# Altium integrated library Xilinx CoolRunner II.IntLib: 88 symbols (part 4 of 5)
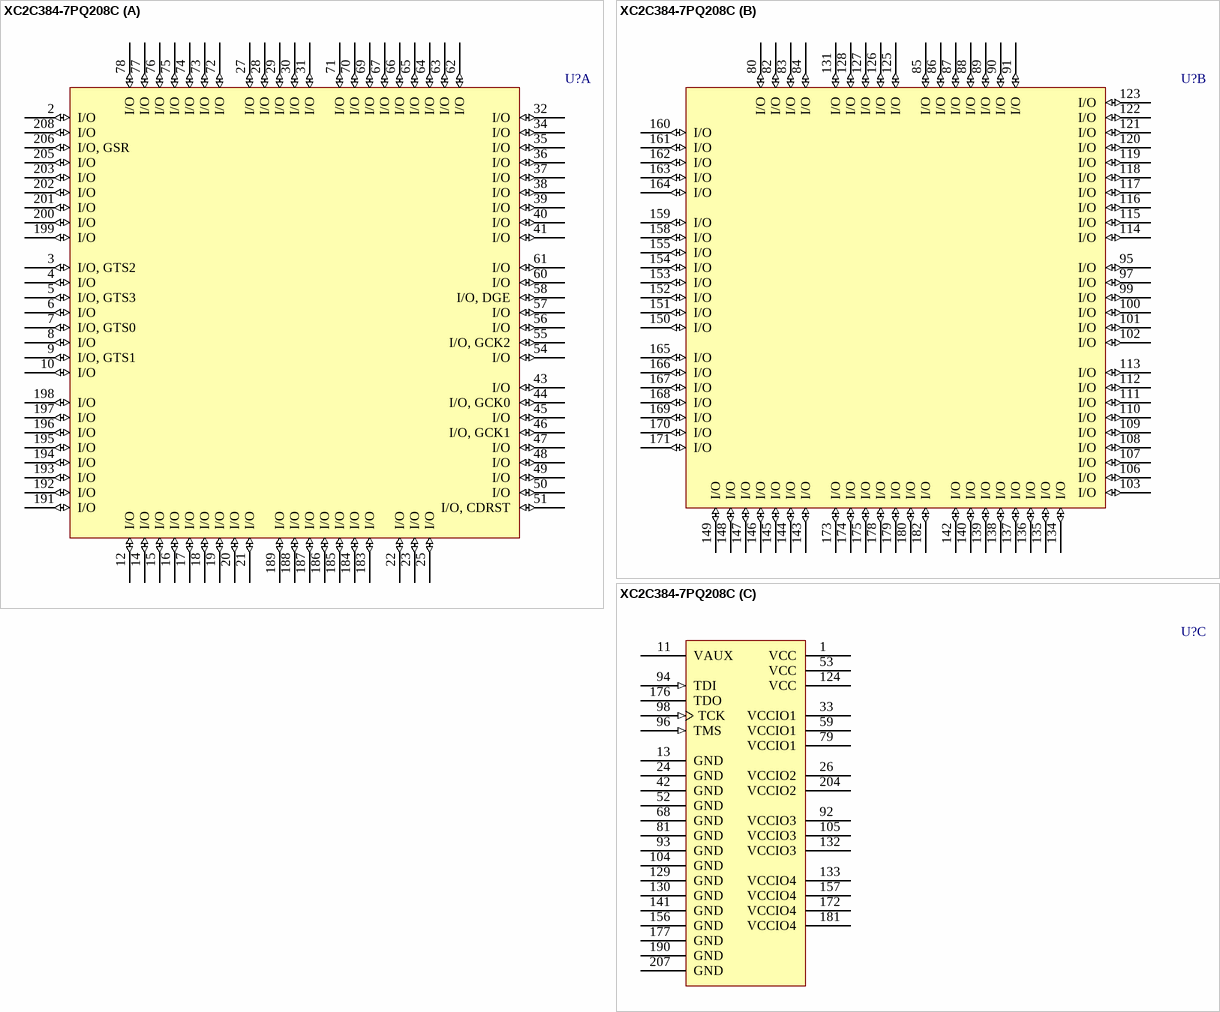
[diagram p43: symbol XC2C384-7PQ208C]

## XC2C384-7PQ208C
designator U?
CoolRunner-II, 1.8V, 384 Macrocell CPLD, 208-Pin PQFP, Commercial Grade; PackageDocument: ver1.1, Oct-2002; Published: 23-Sep-2002; DatasheetDocument: ver2.2, Jan-2004; PackageReference: PQ208; Publisher: Altium Limited; Code_JEDEC: MS-029-FA-1
footprint PQ208 (208-Pin Plastic Quad Flat Pack (PQ208))
3D model XC2C384-PQ208 (208-Pin Plastic Quad Flat Pack (PQ208))
signal-integrity model XC2C384_PQ208 (CoolRunner-II)
part A pins: 2 I/O (io), 3 I/O, GTS2 (io), 4 I/O (io), 5 I/O, GTS3 (io), 6 I/O (io), 7 I/O, GTS0 (io), 8 I/O (io), 9 I/O, GTS1 (io), 10 I/O (io), 12 I/O (io), 14 I/O (io), 15 I/O (io), 16 I/O (io), 17 I/O (io), 18 I/O (io), 19 I/O (io), 20 I/O (io), 21 I/O (io), 22 I/O (io), 23 I/O (io), 25 I/O (io), 27 I/O (io), 28 I/O (io), 29 I/O (io), 30 I/O (io), 31 I/O (io), 32 I/O (io), 34 I/O (io), 35 I/O (io), 36 I/O (io), 37 I/O (io), 38 I/O (io), 39 I/O (io), 40 I/O (io), 41 I/O (io), 43 I/O (io), 44 I/O, GCK0 (io), 45 I/O (io), 46 I/O, GCK1 (io), 47 I/O (io), 48 I/O (io), 49 I/O (io), 50 I/O (io), 51 I/O, CDRST (io), 54 I/O (io), 55 I/O, GCK2 (io), 56 I/O (io), 57 I/O (io), 58 I/O, DGE (io), 60 I/O (io), 61 I/O (io), 62 I/O (io), 63 I/O (io), 64 I/O (io), 65 I/O (io), 66 I/O (io), 67 I/O (io), 69 I/O (io), 70 I/O (io), 71 I/O (io), 72 I/O (io), 73 I/O (io), 74 I/O (io), 75 I/O (io), 76 I/O (io), 77 I/O (io), 78 I/O (io), 183 I/O (io), 184 I/O (io), 185 I/O (io), 186 I/O (io), 187 I/O (io), 188 I/O (io), 189 I/O (io), 191 I/O (io), 192 I/O (io), 193 I/O (io), 194 I/O (io), 195 I/O (io), 196 I/O (io), 197 I/O (io), 198 I/O (io), 199 I/O (io), 200 I/O (io), 201 I/O (io), 202 I/O (io), 203 I/O (io), 205 I/O (io), 206 I/O, GSR (io), 208 I/O (io)
part B pins: 80 I/O (io), 82 I/O (io), 83 I/O (io), 84 I/O (io), 85 I/O (io), 86 I/O (io), 87 I/O (io), 88 I/O (io), 89 I/O (io), 90 I/O (io), 91 I/O (io), 95 I/O (io), 97 I/O (io), 99 I/O (io), 100 I/O (io), 101 I/O (io), 102 I/O (io), 103 I/O (io), 106 I/O (io), 107 I/O (io), 108 I/O (io), 109 I/O (io), 110 I/O (io), 111 I/O (io), 112 I/O (io), 113 I/O (io), 114 I/O (io), 115 I/O (io), 116 I/O (io), 117 I/O (io), 118 I/O (io), 119 I/O (io), 120 I/O (io), 121 I/O (io), 122 I/O (io), 123 I/O (io), 125 I/O (io), 126 I/O (io), 127 I/O (io), 128 I/O (io), 131 I/O (io), 134 I/O (io), 135 I/O (io), 136 I/O (io), 137 I/O (io), 138 I/O (io), 139 I/O (io), 140 I/O (io), 142 I/O (io), 143 I/O (io), 144 I/O (io), 145 I/O (io), 146 I/O (io), 147 I/O (io), 148 I/O (io), 149 I/O (io), 150 I/O (io), 151 I/O (io), 152 I/O (io), 153 I/O (io), 154 I/O (io), 155 I/O (io), 158 I/O (io), 159 I/O (io), 160 I/O (io), 161 I/O (io), 162 I/O (io), 163 I/O (io), 164 I/O (io), 165 I/O (io), 166 I/O (io), 167 I/O (io), 168 I/O (io), 169 I/O (io), 170 I/O (io), 171 I/O (io), 173 I/O (io), 174 I/O (io), 175 I/O (io), 178 I/O (io), 179 I/O (io), 180 I/O (io), 182 I/O (io)
part C pins: 1 VCC (power), 11 VAUX (power), 13 GND (power), 24 GND (power), 26 VCCIO2 (power), 33 VCCIO1 (power), 42 GND (power), 52 GND (power), 53 VCC (power), 59 VCCIO1 (power), 68 GND (power), 79 VCCIO1 (power), 81 GND (power), 92 VCCIO3 (power), 93 GND (power), 94 TDI (in), 96 TMS (in), 98 TCK (in), 104 GND (power), 105 VCCIO3 (power), 124 VCC (power), 129 GND (power), 130 GND (power), 132 VCCIO3 (power), 133 VCCIO4 (power), 141 GND (power), 156 GND (power), 157 VCCIO4 (power), 172 VCCIO4 (power), 176 TDO (hiz), 177 GND (power), 181 VCCIO4 (power), 190 GND (power), 204 VCCIO2 (power), 207 GND (power)

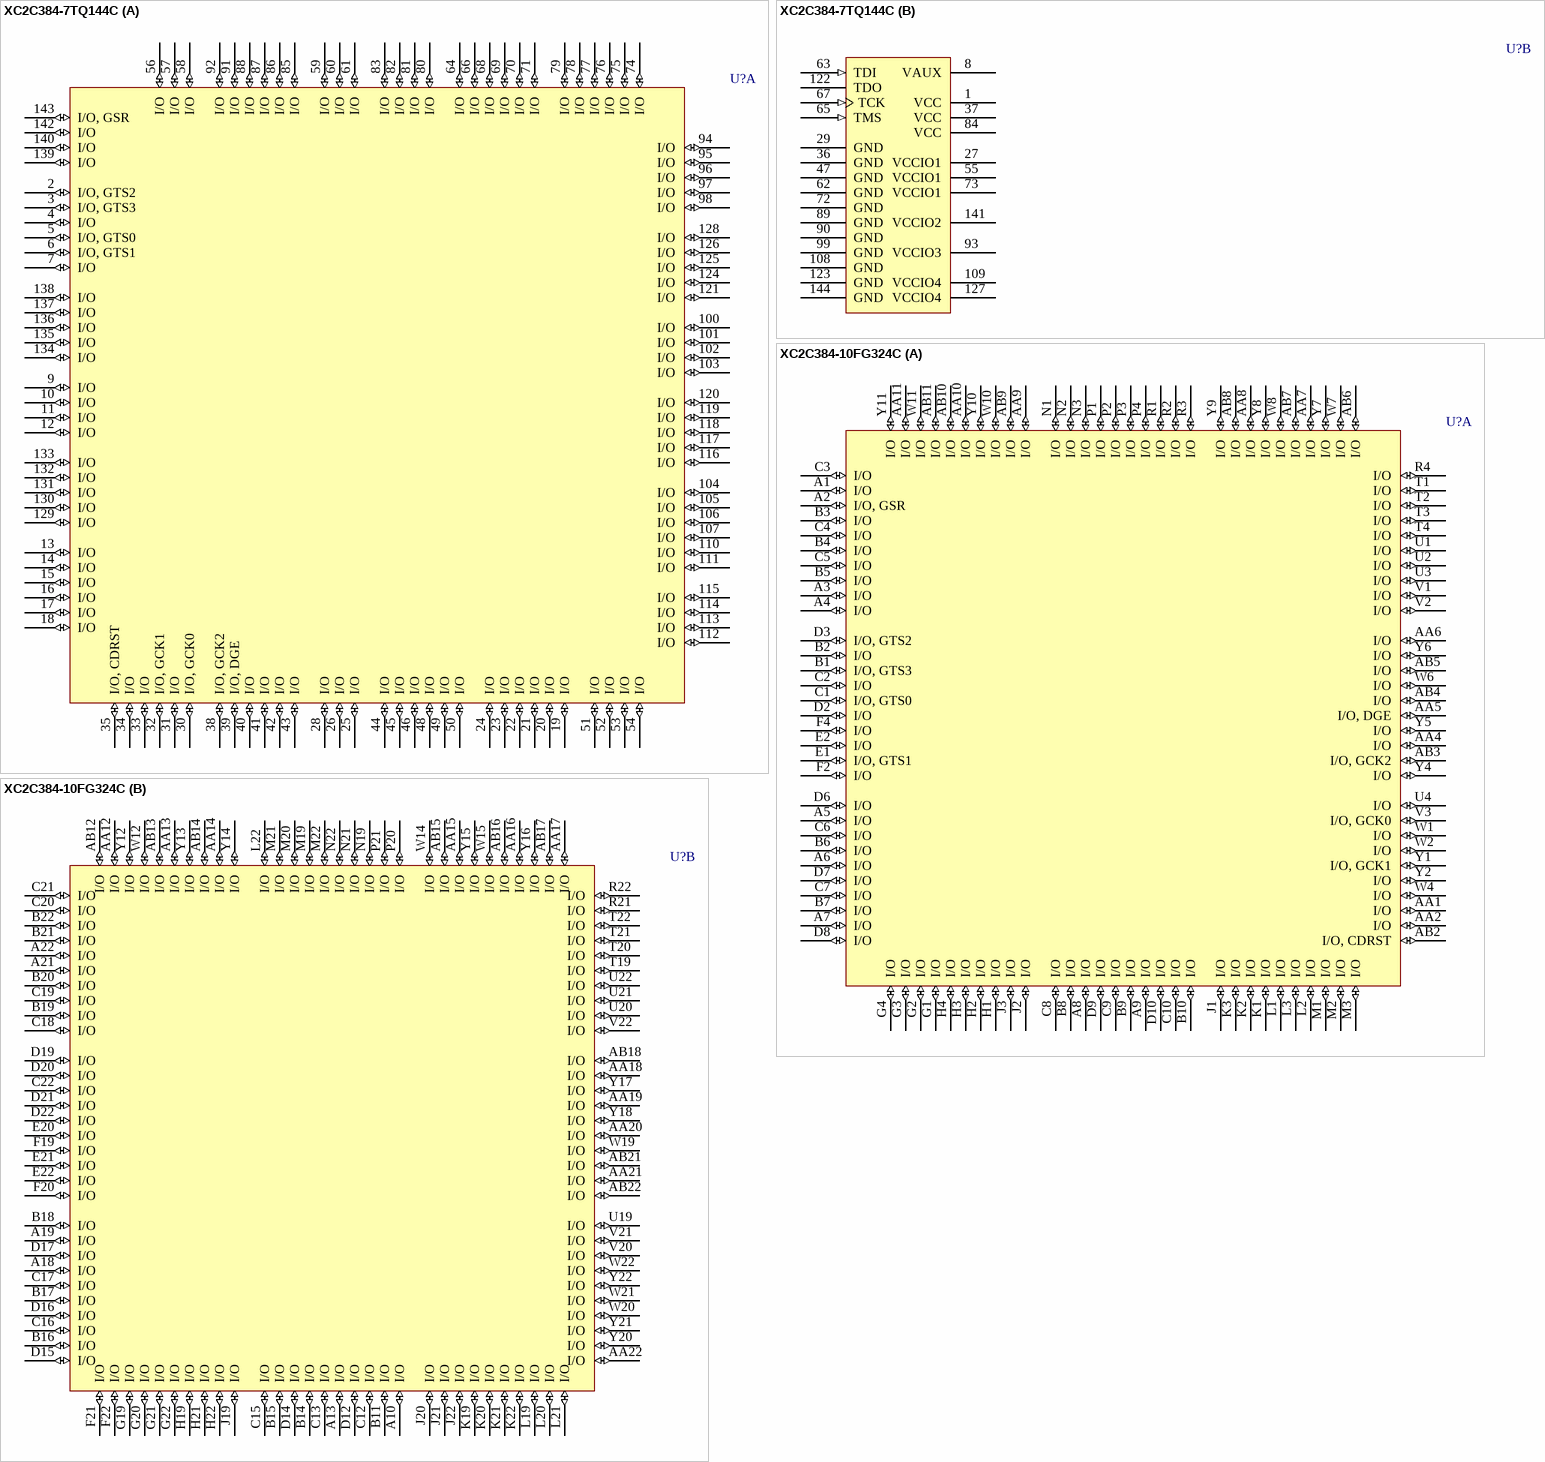
[diagram p26: symbols XC2C384-7TQ144C to XC2C384-10FG324C]

## XC2C384-7TQ144C
designator U?
CoolRunner-II, 1.8V, 384 Macrocell CPLD, 144-Pin TQFP, Commercial Grade; PackageDocument: ver1.1, Oct-2002; Published: 23-Sep-2002; DatasheetDocument: ver2.2, Jan-2004; PackageReference: TQ144; Publisher: Altium Limited; Code_JEDEC: MS-026-BFB; Code_IPC: SQFP20X20-144
footprint TQ144 (144-Pin Thin Quad Flat Pack (TQ144))
3D model XC2C384-TQ144 (144-Pin Thin Quad Flat Pack (TQ144))
signal-integrity model XC2C384_TQ144 (CoolRunner-II)
part A pins: 2 I/O, GTS2 (io), 3 I/O, GTS3 (io), 4 I/O (io), 5 I/O, GTS0 (io), 6 I/O, GTS1 (io), 7 I/O (io), 9 I/O (io), 10 I/O (io), 11 I/O (io), 12 I/O (io), 13 I/O (io), 14 I/O (io), 15 I/O (io), 16 I/O (io), 17 I/O (io), 18 I/O (io), 19 I/O (io), 20 I/O (io), 21 I/O (io), 22 I/O (io), 23 I/O (io), 24 I/O (io), 25 I/O (io), 26 I/O (io), 28 I/O (io), 30 I/O, GCK0 (io), 31 I/O (io), 32 I/O, GCK1 (io), 33 I/O (io), 34 I/O (io), 35 I/O, CDRST (io), 38 I/O, GCK2 (io), 39 I/O, DGE (io), 40 I/O (io), 41 I/O (io), 42 I/O (io), 43 I/O (io), 44 I/O (io), 45 I/O (io), 46 I/O (io), 48 I/O (io), 49 I/O (io), 50 I/O (io), 51 I/O (io), 52 I/O (io), 53 I/O (io), 54 I/O (io), 56 I/O (io), 57 I/O (io), 58 I/O (io), 59 I/O (io), 60 I/O (io), 61 I/O (io), 64 I/O (io), 66 I/O (io), 68 I/O (io), 69 I/O (io), 70 I/O (io), 71 I/O (io), 74 I/O (io), 75 I/O (io), 76 I/O (io), 77 I/O (io), 78 I/O (io), 79 I/O (io), 80 I/O (io), 81 I/O (io), 82 I/O (io), 83 I/O (io), 85 I/O (io), 86 I/O (io), 87 I/O (io), 88 I/O (io), 91 I/O (io), 92 I/O (io), 94 I/O (io), 95 I/O (io), 96 I/O (io), 97 I/O (io), 98 I/O (io), 100 I/O (io), 101 I/O (io), 102 I/O (io), 103 I/O (io), 104 I/O (io), 105 I/O (io), 106 I/O (io), 107 I/O (io), 110 I/O (io), 111 I/O (io), 112 I/O (io), 113 I/O (io), 114 I/O (io), 115 I/O (io), 116 I/O (io), 117 I/O (io), 118 I/O (io), 119 I/O (io), 120 I/O (io), 121 I/O (io), 124 I/O (io), 125 I/O (io), 126 I/O (io), 128 I/O (io), 129 I/O (io), 130 I/O (io), 131 I/O (io), 132 I/O (io), 133 I/O (io), 134 I/O (io), 135 I/O (io), 136 I/O (io), 137 I/O (io), 138 I/O (io), 139 I/O (io), 140 I/O (io), 142 I/O (io), 143 I/O, GSR (io)
part B pins: 1 VCC (power), 8 VAUX (power), 27 VCCIO1 (power), 29 GND (power), 36 GND (power), 37 VCC (power), 47 GND (power), 55 VCCIO1 (power), 62 GND (power), 63 TDI (in), 65 TMS (in), 67 TCK (in), 72 GND (power), 73 VCCIO1 (power), 84 VCC (power), 89 GND (power), 90 GND (power), 93 VCCIO3 (power), 99 GND (power), 108 GND (power), 109 VCCIO4 (power), 122 TDO (hiz), 123 GND (power), 127 VCCIO4 (power), 141 VCCIO2 (power), 144 GND (power)

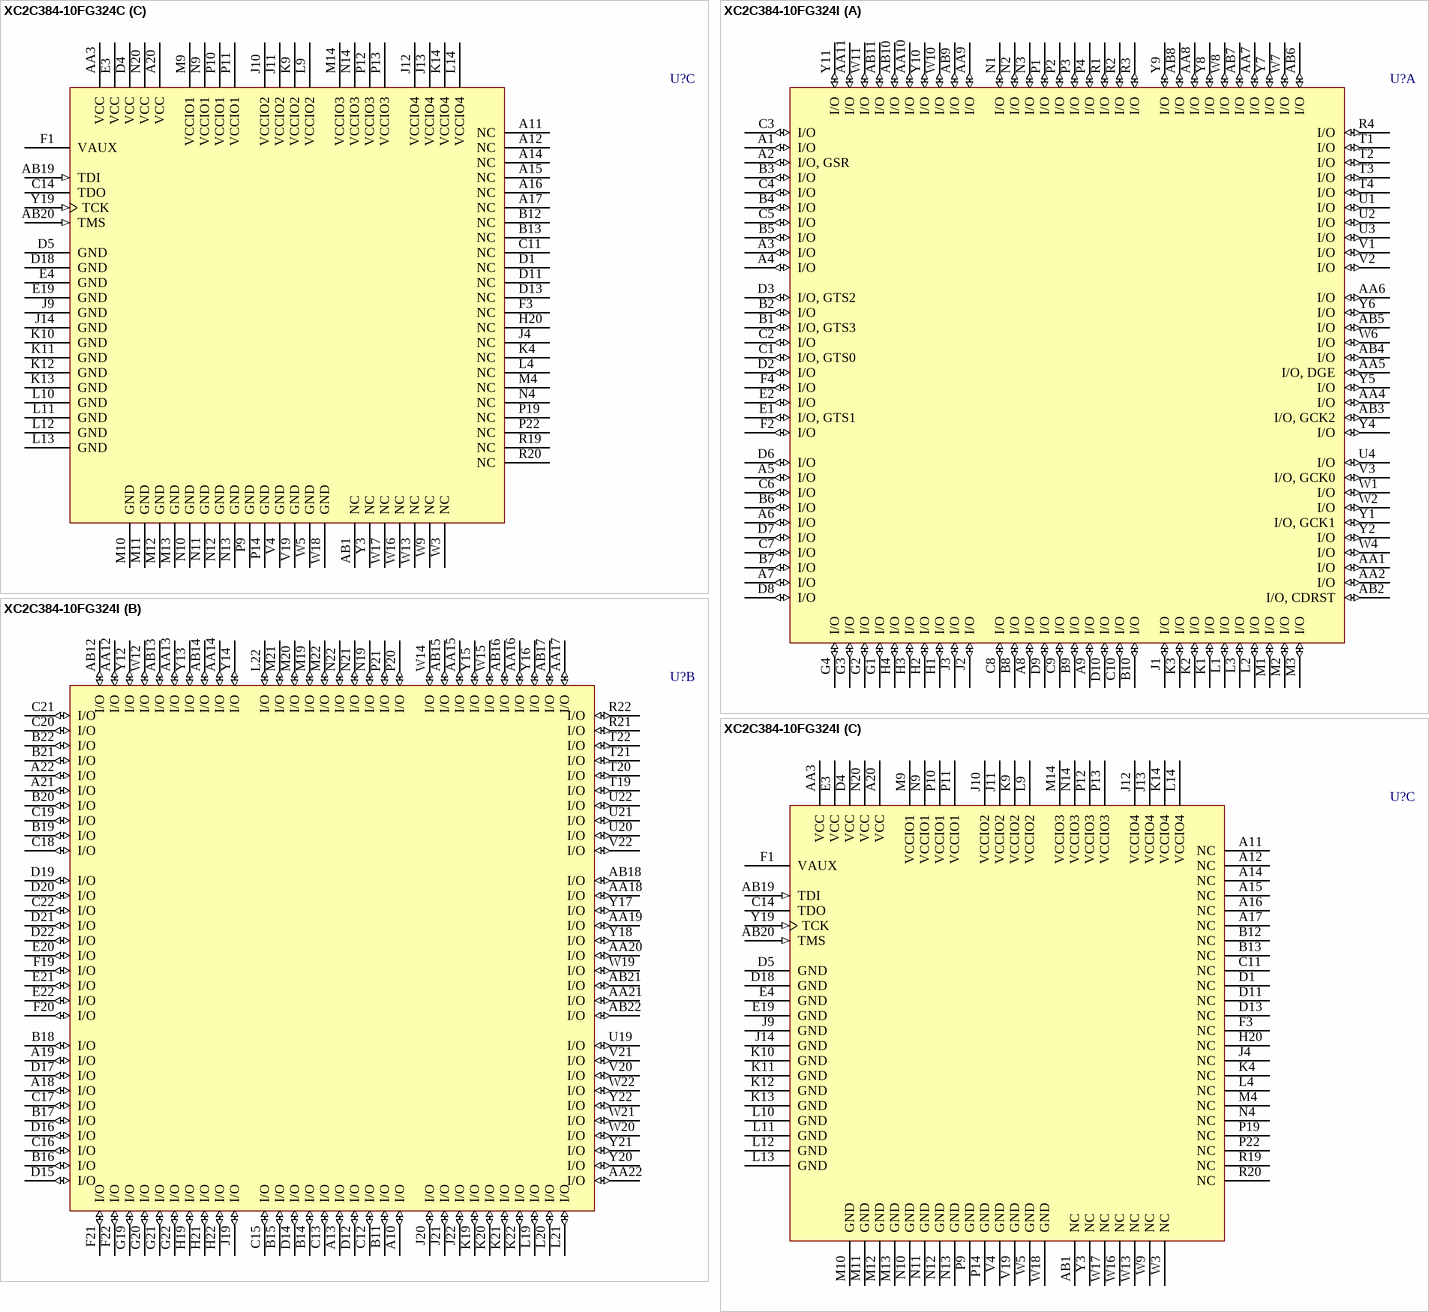
[diagram p27: symbols XC2C384-10FG324C to XC2C384-10FG324I]

## XC2C384-10FG324C
designator U?
CoolRunner-II, 1.8V, 384 Macrocell CPLD, 324-Ball FBGA, Commercial Grade; PackageDocument: ver1.0, Aug-2001; Published: 23-Sep-2002; DatasheetDocument: ver2.2, Jan-2004; PackageReference: FG324; Publisher: Altium Limited; Code_JEDEC: MS0-34-AAJ-1
footprint FG324 (324-Ball Fine Pitch Ball Grid Array (FG324))
3D model XC2C384-FG324 (324-Ball Fine Pitch Ball Grid Array (FG324))
signal-integrity model XC2C384_FG324 (CoolRunner-II)
part A pins: A1 I/O (io), A2 I/O, GSR (io), A3 I/O (io), A4 I/O (io), A5 I/O (io), A6 I/O (io), A7 I/O (io), A8 I/O (io), A9 I/O (io), AA1 I/O (io), AA2 I/O (io), AA4 I/O (io), AA5 I/O, DGE (io), AA6 I/O (io), AA7 I/O (io), AA8 I/O (io), AA9 I/O (io), AA10 I/O (io), AA11 I/O (io), AB2 I/O, CDRST (io), AB3 I/O, GCK2 (io), AB4 I/O (io), AB5 I/O (io), AB6 I/O (io), AB7 I/O (io), AB8 I/O (io), AB9 I/O (io), AB10 I/O (io), AB11 I/O (io), B1 I/O, GTS3 (io), B2 I/O (io), B3 I/O (io), B4 I/O (io), B5 I/O (io), B6 I/O (io), B7 I/O (io), B8 I/O (io), B9 I/O (io), B10 I/O (io), C1 I/O, GTS0 (io), C2 I/O (io), C3 I/O (io), C4 I/O (io), C5 I/O (io), C6 I/O (io), C7 I/O (io), C8 I/O (io), C9 I/O (io), C10 I/O (io), D2 I/O (io), D3 I/O, GTS2 (io), D6 I/O (io), D7 I/O (io), D8 I/O (io), D9 I/O (io), D10 I/O (io), E1 I/O, GTS1 (io), E2 I/O (io), F2 I/O (io), F4 I/O (io), G1 I/O (io), G2 I/O (io), G3 I/O (io), G4 I/O (io), H1 I/O (io), H2 I/O (io), H3 I/O (io), H4 I/O (io), J1 I/O (io), J2 I/O (io), J3 I/O (io), K1 I/O (io), K2 I/O (io), K3 I/O (io), L1 I/O (io), L2 I/O (io), L3 I/O (io), M1 I/O (io), M2 I/O (io), M3 I/O (io), N1 I/O (io), N2 I/O (io), N3 I/O (io), P1 I/O (io), P2 I/O (io), P3 I/O (io), P4 I/O (io), R1 I/O (io), R2 I/O (io), R3 I/O (io), R4 I/O (io), T1 I/O (io), T2 I/O (io), T3 I/O (io), T4 I/O (io), U1 I/O (io), U2 I/O (io), U3 I/O (io), U4 I/O (io), V1 I/O (io), V2 I/O (io), V3 I/O, GCK0 (io), W1 I/O (io), W2 I/O (io), W4 I/O (io), W6 I/O (io), W7 I/O (io), W8 I/O (io), W10 I/O (io), W11 I/O (io), Y1 I/O, GCK1 (io), Y2 I/O (io), Y4 I/O (io), Y5 I/O (io), Y6 I/O (io), Y7 I/O (io), Y8 I/O (io), Y9 I/O (io), Y10 I/O (io), Y11 I/O (io)
part B pins: A10 I/O (io), A13 I/O (io), A18 I/O (io), A19 I/O (io), A21 I/O (io), A22 I/O (io), AA12 I/O (io), AA13 I/O (io), AA14 I/O (io), AA15 I/O (io), AA16 I/O (io), AA17 I/O (io), AA18 I/O (io), AA19 I/O (io), AA20 I/O (io), AA21 I/O (io), AA22 I/O (io), AB12 I/O (io), AB13 I/O (io), AB14 I/O (io), AB15 I/O (io), AB16 I/O (io), AB17 I/O (io), AB18 I/O (io), AB21 I/O (io), AB22 I/O (io), B11 I/O (io), B14 I/O (io), B15 I/O (io), B16 I/O (io), B17 I/O (io), B18 I/O (io), B19 I/O (io), B20 I/O (io), B21 I/O (io), B22 I/O (io), C12 I/O (io), C13 I/O (io), C15 I/O (io), C16 I/O (io), C17 I/O (io), C18 I/O (io), C19 I/O (io), C20 I/O (io), C21 I/O (io), C22 I/O (io), D12 I/O (io), D14 I/O (io), D15 I/O (io), D16 I/O (io), D17 I/O (io), D19 I/O (io), D20 I/O (io), D21 I/O (io), D22 I/O (io), E20 I/O (io), E21 I/O (io), E22 I/O (io), F19 I/O (io), F20 I/O (io), F21 I/O (io), F22 I/O (io), G19 I/O (io), G20 I/O (io), G21 I/O (io), G22 I/O (io), H19 I/O (io), H21 I/O (io), H22 I/O (io), J19 I/O (io), J20 I/O (io), J21 I/O (io), J22 I/O (io), K19 I/O (io), K20 I/O (io), K21 I/O (io), K22 I/O (io), L19 I/O (io), L20 I/O (io), L21 I/O (io), L22 I/O (io), M19 I/O (io), M20 I/O (io), M21 I/O (io), M22 I/O (io), N19 I/O (io), N21 I/O (io), N22 I/O (io), P20 I/O (io), P21 I/O (io), R21 I/O (io), R22 I/O (io), T19 I/O (io), T20 I/O (io), T21 I/O (io), T22 I/O (io), U19 I/O (io), U20 I/O (io), U21 I/O (io), U22 I/O (io), V20 I/O (io), V21 I/O (io), V22 I/O (io), W12 I/O (io), W14 I/O (io), W15 I/O (io), W19 I/O (io), W20 I/O (io), W21 I/O (io), W22 I/O (io), Y12 I/O (io), Y13 I/O (io), Y14 I/O (io), Y15 I/O (io), Y16 I/O (io), Y17 I/O (io), Y18 I/O (io), Y20 I/O (io), Y21 I/O (io), Y22 I/O (io)
part C pins: A11 NC, A12 NC, A14 NC, A15 NC, A16 NC, A17 NC, A20 VCC (power), AA3 VCC (power), AB1 NC, AB19 TDI (in), AB20 TMS (in), B12 NC, B13 NC, C11 NC, C14 TDO (hiz), D1 NC, D4 VCC (power), D5 GND (power), D11 NC, D13 NC, D18 GND (power), E3 VCC (power), E4 GND (power), E19 GND (power), F1 VAUX (power), F3 NC, H20 NC, J4 NC, J9 GND (power), J10 VCCIO2 (power), J11 VCCIO2 (power), J12 VCCIO4 (power), J13 VCCIO4 (power), J14 GND (power), K4 NC, K9 VCCIO2 (power), K10 GND (power), K11 GND (power), K12 GND (power), K13 GND (power), K14 VCCIO4 (power), L4 NC, L9 VCCIO2 (power), L10 GND (power), L11 GND (power), L12 GND (power), L13 GND (power), L14 VCCIO4 (power), M4 NC, M9 VCCIO1 (power), M10 GND (power), M11 GND (power), M12 GND (power), M13 GND (power), M14 VCCIO3 (power), N4 NC, N9 VCCIO1 (power), N10 GND (power), N11 GND (power), N12 GND (power), N13 GND (power), N14 VCCIO3 (power), N20 VCC (power), P9 GND (power), P10 VCCIO1 (power), P11 VCCIO1 (power), P12 VCCIO3 (power), P13 VCCIO3 (power), P14 GND (power), P19 NC, P22 NC, R19 NC, R20 NC, V4 GND (power), V19 GND (power), W3 NC, W5 GND (power), W9 NC, W13 NC, W16 NC, W17 NC, W18 GND (power), Y3 NC, Y19 TCK (in)

## XC2C384-10FG324I
designator U?
CoolRunner-II, 1.8V, 384 Macrocell CPLD, 324-Ball FBGA, Industrial Grade; PackageDocument: ver1.0, Aug-2001; Published: 23-Sep-2002; DatasheetDocument: ver2.2, Jan-2004; PackageReference: FG324; Publisher: Altium Limited; Code_JEDEC: MS0-34-AAJ-1
footprint FG324 (324-Ball Fine Pitch Ball Grid Array (FG324))
3D model XC2C384-FG324 (324-Ball Fine Pitch Ball Grid Array (FG324))
signal-integrity model XC2C384_FG324 (CoolRunner-II)
part A pins: A1 I/O (io), A2 I/O, GSR (io), A3 I/O (io), A4 I/O (io), A5 I/O (io), A6 I/O (io), A7 I/O (io), A8 I/O (io), A9 I/O (io), AA1 I/O (io), AA2 I/O (io), AA4 I/O (io), AA5 I/O, DGE (io), AA6 I/O (io), AA7 I/O (io), AA8 I/O (io), AA9 I/O (io), AA10 I/O (io), AA11 I/O (io), AB2 I/O, CDRST (io), AB3 I/O, GCK2 (io), AB4 I/O (io), AB5 I/O (io), AB6 I/O (io), AB7 I/O (io), AB8 I/O (io), AB9 I/O (io), AB10 I/O (io), AB11 I/O (io), B1 I/O, GTS3 (io), B2 I/O (io), B3 I/O (io), B4 I/O (io), B5 I/O (io), B6 I/O (io), B7 I/O (io), B8 I/O (io), B9 I/O (io), B10 I/O (io), C1 I/O, GTS0 (io), C2 I/O (io), C3 I/O (io), C4 I/O (io), C5 I/O (io), C6 I/O (io), C7 I/O (io), C8 I/O (io), C9 I/O (io), C10 I/O (io), D2 I/O (io), D3 I/O, GTS2 (io), D6 I/O (io), D7 I/O (io), D8 I/O (io), D9 I/O (io), D10 I/O (io), E1 I/O, GTS1 (io), E2 I/O (io), F2 I/O (io), F4 I/O (io), G1 I/O (io), G2 I/O (io), G3 I/O (io), G4 I/O (io), H1 I/O (io), H2 I/O (io), H3 I/O (io), H4 I/O (io), J1 I/O (io), J2 I/O (io), J3 I/O (io), K1 I/O (io), K2 I/O (io), K3 I/O (io), L1 I/O (io), L2 I/O (io), L3 I/O (io), M1 I/O (io), M2 I/O (io), M3 I/O (io), N1 I/O (io), N2 I/O (io), N3 I/O (io), P1 I/O (io), P2 I/O (io), P3 I/O (io), P4 I/O (io), R1 I/O (io), R2 I/O (io), R3 I/O (io), R4 I/O (io), T1 I/O (io), T2 I/O (io), T3 I/O (io), T4 I/O (io), U1 I/O (io), U2 I/O (io), U3 I/O (io), U4 I/O (io), V1 I/O (io), V2 I/O (io), V3 I/O, GCK0 (io), W1 I/O (io), W2 I/O (io), W4 I/O (io), W6 I/O (io), W7 I/O (io), W8 I/O (io), W10 I/O (io), W11 I/O (io), Y1 I/O, GCK1 (io), Y2 I/O (io), Y4 I/O (io), Y5 I/O (io), Y6 I/O (io), Y7 I/O (io), Y8 I/O (io), Y9 I/O (io), Y10 I/O (io), Y11 I/O (io)
part B pins: A10 I/O (io), A13 I/O (io), A18 I/O (io), A19 I/O (io), A21 I/O (io), A22 I/O (io), AA12 I/O (io), AA13 I/O (io), AA14 I/O (io), AA15 I/O (io), AA16 I/O (io), AA17 I/O (io), AA18 I/O (io), AA19 I/O (io), AA20 I/O (io), AA21 I/O (io), AA22 I/O (io), AB12 I/O (io), AB13 I/O (io), AB14 I/O (io), AB15 I/O (io), AB16 I/O (io), AB17 I/O (io), AB18 I/O (io), AB21 I/O (io), AB22 I/O (io), B11 I/O (io), B14 I/O (io), B15 I/O (io), B16 I/O (io), B17 I/O (io), B18 I/O (io), B19 I/O (io), B20 I/O (io), B21 I/O (io), B22 I/O (io), C12 I/O (io), C13 I/O (io), C15 I/O (io), C16 I/O (io), C17 I/O (io), C18 I/O (io), C19 I/O (io), C20 I/O (io), C21 I/O (io), C22 I/O (io), D12 I/O (io), D14 I/O (io), D15 I/O (io), D16 I/O (io), D17 I/O (io), D19 I/O (io), D20 I/O (io), D21 I/O (io), D22 I/O (io), E20 I/O (io), E21 I/O (io), E22 I/O (io), F19 I/O (io), F20 I/O (io), F21 I/O (io), F22 I/O (io), G19 I/O (io), G20 I/O (io), G21 I/O (io), G22 I/O (io), H19 I/O (io), H21 I/O (io), H22 I/O (io), J19 I/O (io), J20 I/O (io), J21 I/O (io), J22 I/O (io), K19 I/O (io), K20 I/O (io), K21 I/O (io), K22 I/O (io), L19 I/O (io), L20 I/O (io), L21 I/O (io), L22 I/O (io), M19 I/O (io), M20 I/O (io), M21 I/O (io), M22 I/O (io), N19 I/O (io), N21 I/O (io), N22 I/O (io), P20 I/O (io), P21 I/O (io), R21 I/O (io), R22 I/O (io), T19 I/O (io), T20 I/O (io), T21 I/O (io), T22 I/O (io), U19 I/O (io), U20 I/O (io), U21 I/O (io), U22 I/O (io), V20 I/O (io), V21 I/O (io), V22 I/O (io), W12 I/O (io), W14 I/O (io), W15 I/O (io), W19 I/O (io), W20 I/O (io), W21 I/O (io), W22 I/O (io), Y12 I/O (io), Y13 I/O (io), Y14 I/O (io), Y15 I/O (io), Y16 I/O (io), Y17 I/O (io), Y18 I/O (io), Y20 I/O (io), Y21 I/O (io), Y22 I/O (io)
part C pins: A11 NC, A12 NC, A14 NC, A15 NC, A16 NC, A17 NC, A20 VCC (power), AA3 VCC (power), AB1 NC, AB19 TDI (in), AB20 TMS (in), B12 NC, B13 NC, C11 NC, C14 TDO (hiz), D1 NC, D4 VCC (power), D5 GND (power), D11 NC, D13 NC, D18 GND (power), E3 VCC (power), E4 GND (power), E19 GND (power), F1 VAUX (power), F3 NC, H20 NC, J4 NC, J9 GND (power), J10 VCCIO2 (power), J11 VCCIO2 (power), J12 VCCIO4 (power), J13 VCCIO4 (power), J14 GND (power), K4 NC, K9 VCCIO2 (power), K10 GND (power), K11 GND (power), K12 GND (power), K13 GND (power), K14 VCCIO4 (power), L4 NC, L9 VCCIO2 (power), L10 GND (power), L11 GND (power), L12 GND (power), L13 GND (power), L14 VCCIO4 (power), M4 NC, M9 VCCIO1 (power), M10 GND (power), M11 GND (power), M12 GND (power), M13 GND (power), M14 VCCIO3 (power), N4 NC, N9 VCCIO1 (power), N10 GND (power), N11 GND (power), N12 GND (power), N13 GND (power), N14 VCCIO3 (power), N20 VCC (power), P9 GND (power), P10 VCCIO1 (power), P11 VCCIO1 (power), P12 VCCIO3 (power), P13 VCCIO3 (power), P14 GND (power), P19 NC, P22 NC, R19 NC, R20 NC, V4 GND (power), V19 GND (power), W3 NC, W5 GND (power), W9 NC, W13 NC, W16 NC, W17 NC, W18 GND (power), Y3 NC, Y19 TCK (in)

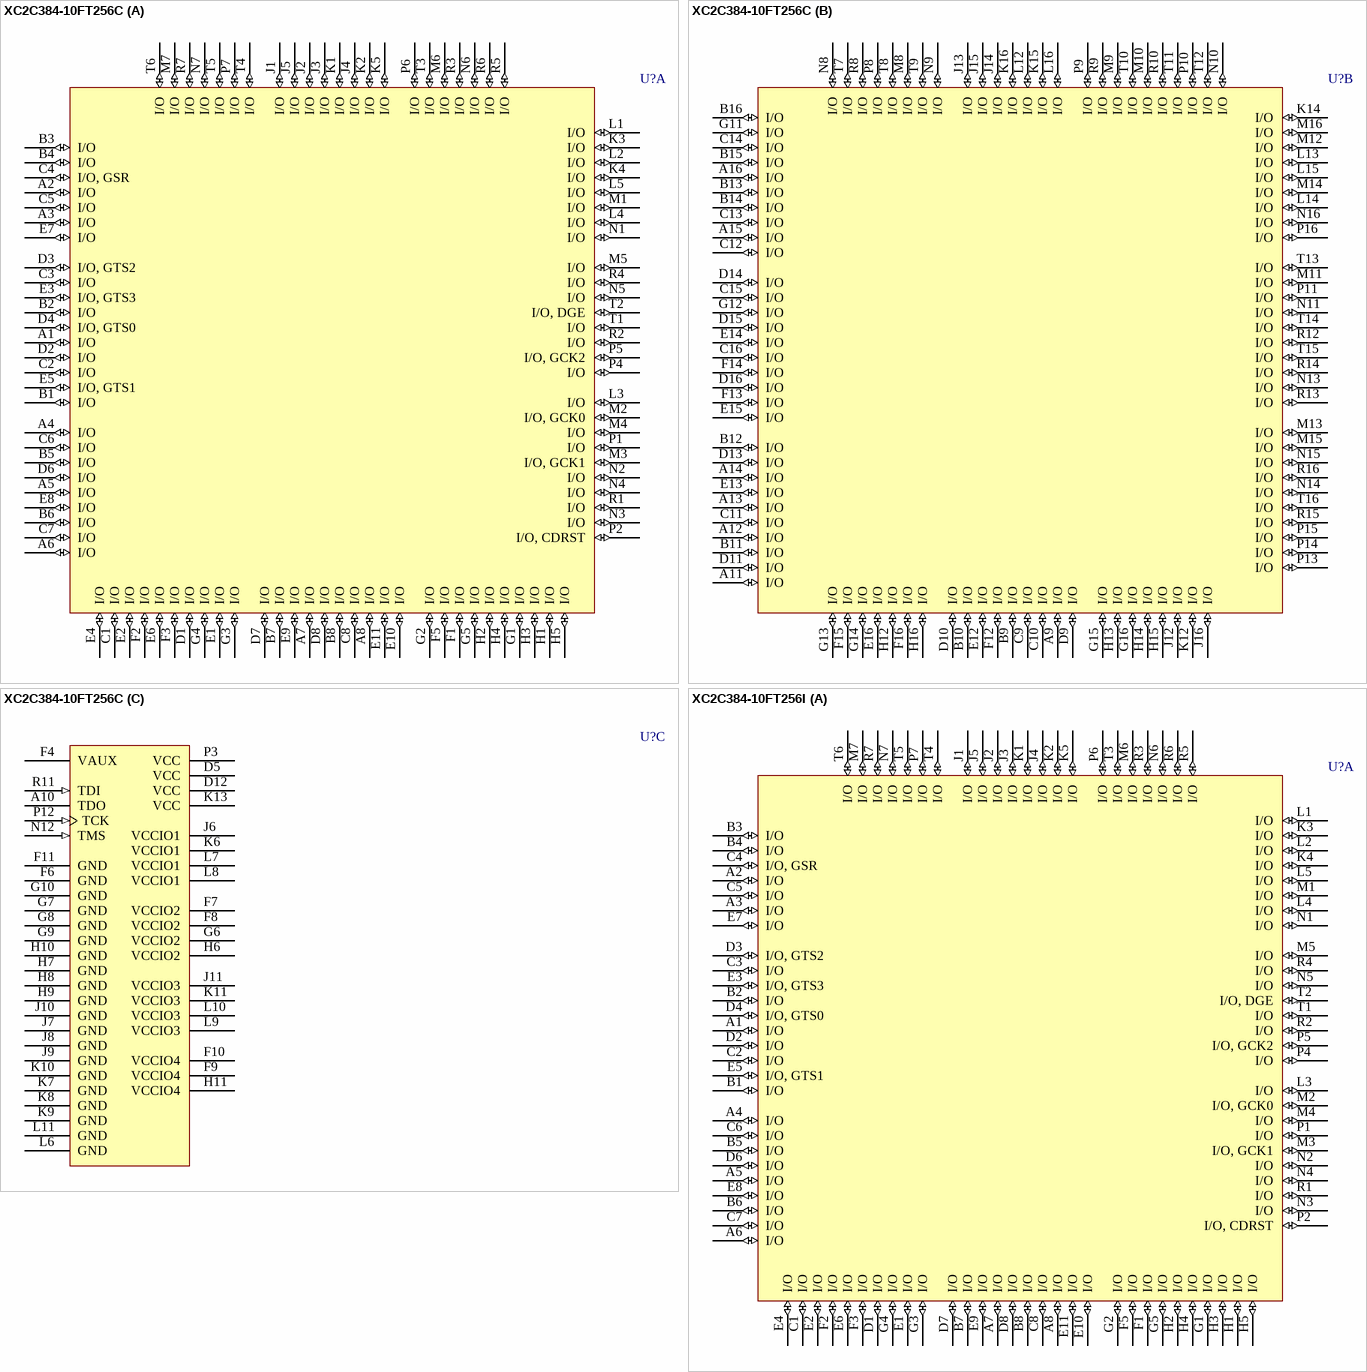
[diagram p28: symbols XC2C384-10FT256C to XC2C384-10FT256I]

## XC2C384-10FT256C
designator U?
CoolRunner-II, 1.8V, 384 Macrocell CPLD, 256-Ball FTBGA, Commercial Grade; PackageDocument: ver1.0, Apr-2001; Published: 23-Sep-2002; DatasheetDocument: ver2.2, Jan-2004; PackageReference: FT256; Publisher: Altium Limited; Code_JEDEC: MS-034-AAF-1*
footprint FT256 (256-Ball Fine Pitch Thin Ball Grid Array (FT256))
3D model XC2C384-FT256 (256-Ball Fine Pitch Thin Ball Grid Array (FT256))
signal-integrity model XC2C384_FT256 (CoolRunner-II)
part A pins: A1 I/O (io), A2 I/O (io), A3 I/O (io), A4 I/O (io), A5 I/O (io), A6 I/O (io), A7 I/O (io), A8 I/O (io), B1 I/O (io), B2 I/O (io), B3 I/O (io), B4 I/O (io), B5 I/O (io), B6 I/O (io), B7 I/O (io), B8 I/O (io), C1 I/O (io), C2 I/O (io), C3 I/O (io), C4 I/O, GSR (io), C5 I/O (io), C6 I/O (io), C7 I/O (io), C8 I/O (io), D1 I/O (io), D2 I/O (io), D3 I/O, GTS2 (io), D4 I/O, GTS0 (io), D6 I/O (io), D7 I/O (io), D8 I/O (io), E1 I/O (io), E2 I/O (io), E3 I/O, GTS3 (io), E4 I/O (io), E5 I/O, GTS1 (io), E6 I/O (io), E7 I/O (io), E8 I/O (io), E9 I/O (io), E10 I/O (io), E11 I/O (io), F1 I/O (io), F2 I/O (io), F3 I/O (io), F5 I/O (io), G1 I/O (io), G2 I/O (io), G3 I/O (io), G4 I/O (io), G5 I/O (io), H1 I/O (io), H2 I/O (io), H3 I/O (io), H4 I/O (io), H5 I/O (io), J1 I/O (io), J2 I/O (io), J3 I/O (io), J4 I/O (io), J5 I/O (io), K1 I/O (io), K2 I/O (io), K3 I/O (io), K4 I/O (io), K5 I/O (io), L1 I/O (io), L2 I/O (io), L3 I/O (io), L4 I/O (io), L5 I/O (io), M1 I/O (io), M2 I/O, GCK0 (io), M3 I/O, GCK1 (io), M4 I/O (io), M5 I/O (io), M6 I/O (io), M7 I/O (io), N1 I/O (io), N2 I/O (io), N3 I/O (io), N4 I/O (io), N5 I/O (io), N6 I/O (io), N7 I/O (io), P1 I/O (io), P2 I/O, CDRST (io), P4 I/O (io), P5 I/O, GCK2 (io), P6 I/O (io), P7 I/O (io), R1 I/O (io), R2 I/O (io), R3 I/O (io), R4 I/O (io), R5 I/O (io), R6 I/O (io), R7 I/O (io), T1 I/O (io), T2 I/O, DGE (io), T3 I/O (io), T4 I/O (io), T5 I/O (io), T6 I/O (io)
part B pins: A9 I/O (io), A11 I/O (io), A12 I/O (io), A13 I/O (io), A14 I/O (io), A15 I/O (io), A16 I/O (io), B9 I/O (io), B10 I/O (io), B11 I/O (io), B12 I/O (io), B13 I/O (io), B14 I/O (io), B15 I/O (io), B16 I/O (io), C9 I/O (io), C10 I/O (io), C11 I/O (io), C12 I/O (io), C13 I/O (io), C14 I/O (io), C15 I/O (io), C16 I/O (io), D9 I/O (io), D10 I/O (io), D11 I/O (io), D13 I/O (io), D14 I/O (io), D15 I/O (io), D16 I/O (io), E12 I/O (io), E13 I/O (io), E14 I/O (io), E15 I/O (io), E16 I/O (io), F12 I/O (io), F13 I/O (io), F14 I/O (io), F15 I/O (io), F16 I/O (io), G11 I/O (io), G12 I/O (io), G13 I/O (io), G14 I/O (io), G15 I/O (io), G16 I/O (io), H12 I/O (io), H13 I/O (io), H14 I/O (io), H15 I/O (io), H16 I/O (io), J12 I/O (io), J13 I/O (io), J14 I/O (io), J15 I/O (io), J16 I/O (io), K12 I/O (io), K14 I/O (io), K15 I/O (io), K16 I/O (io), L12 I/O (io), L13 I/O (io), L14 I/O (io), L15 I/O (io), L16 I/O (io), M8 I/O (io), M9 I/O (io), M10 I/O (io), M11 I/O (io), M12 I/O (io), M13 I/O (io), M14 I/O (io), M15 I/O (io), M16 I/O (io), N8 I/O (io), N9 I/O (io), N10 I/O (io), N11 I/O (io), N13 I/O (io), N14 I/O (io), N15 I/O (io), N16 I/O (io), P8 I/O (io), P9 I/O (io), P10 I/O (io), P11 I/O (io), P13 I/O (io), P14 I/O (io), P15 I/O (io), P16 I/O (io), R8 I/O (io), R9 I/O (io), R10 I/O (io), R12 I/O (io), R13 I/O (io), R14 I/O (io), R15 I/O (io), R16 I/O (io), T7 I/O (io), T8 I/O (io), T9 I/O (io), T10 I/O (io), T11 I/O (io), T12 I/O (io), T13 I/O (io), T14 I/O (io), T15 I/O (io), T16 I/O (io)
part C pins: A10 TDO (hiz), D5 VCC (power), D12 VCC (power), F4 VAUX (power), F6 GND (power), F7 VCCIO2 (power), F8 VCCIO2 (power), F9 VCCIO4 (power), F10 VCCIO4 (power), F11 GND (power), G6 VCCIO2 (power), G7 GND (power), G8 GND (power), G9 GND (power), G10 GND (power), H6 VCCIO2 (power), H7 GND (power), H8 GND (power), H9 GND (power), H10 GND (power), H11 VCCIO4 (power), J6 VCCIO1 (power), J7 GND (power), J8 GND (power), J9 GND (power), J10 GND (power), J11 VCCIO3 (power), K6 VCCIO1 (power), K7 GND (power), K8 GND (power), K9 GND (power), K10 GND (power), K11 VCCIO3 (power), K13 VCC (power), L6 GND (power), L7 VCCIO1 (power), L8 VCCIO1 (power), L9 VCCIO3 (power), L10 VCCIO3 (power), L11 GND (power), N12 TMS (in), P3 VCC (power), P12 TCK (in), R11 TDI (in)

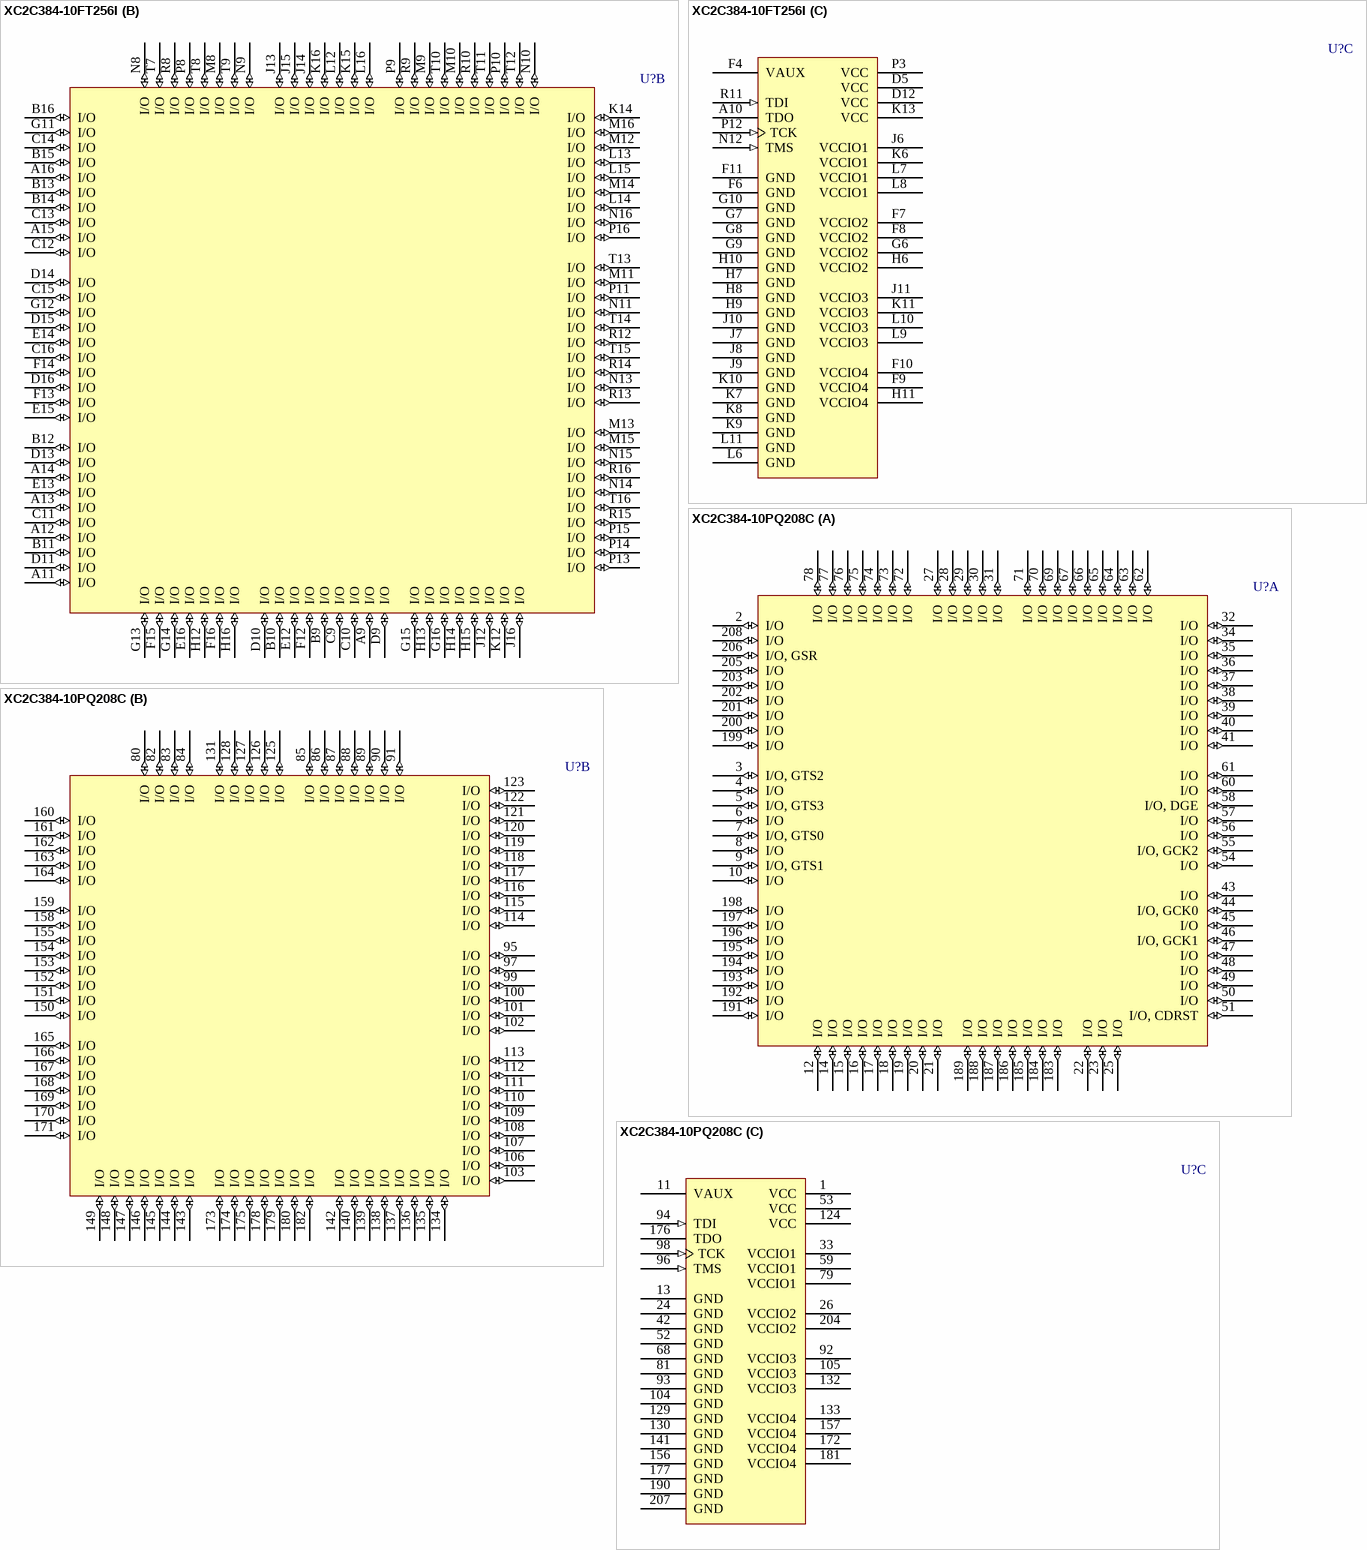
[diagram p29: symbols XC2C384-10FT256I to XC2C384-10PQ208C]

## XC2C384-10FT256I
designator U?
CoolRunner-II, 1.8V, 384 Macrocell CPLD, 256-Ball FTBGA, Industrial Grade; PackageDocument: ver1.0, Apr-2001; Published: 23-Sep-2002; DatasheetDocument: ver2.2, Jan-2004; PackageReference: FT256; Publisher: Altium Limited; Code_JEDEC: MS-034-AAF-1*
footprint FT256 (256-Ball Fine Pitch Thin Ball Grid Array (FT256))
3D model XC2C384-FT256 (256-Ball Fine Pitch Thin Ball Grid Array (FT256))
signal-integrity model XC2C384_FT256 (CoolRunner-II)
part A pins: A1 I/O (io), A2 I/O (io), A3 I/O (io), A4 I/O (io), A5 I/O (io), A6 I/O (io), A7 I/O (io), A8 I/O (io), B1 I/O (io), B2 I/O (io), B3 I/O (io), B4 I/O (io), B5 I/O (io), B6 I/O (io), B7 I/O (io), B8 I/O (io), C1 I/O (io), C2 I/O (io), C3 I/O (io), C4 I/O, GSR (io), C5 I/O (io), C6 I/O (io), C7 I/O (io), C8 I/O (io), D1 I/O (io), D2 I/O (io), D3 I/O, GTS2 (io), D4 I/O, GTS0 (io), D6 I/O (io), D7 I/O (io), D8 I/O (io), E1 I/O (io), E2 I/O (io), E3 I/O, GTS3 (io), E4 I/O (io), E5 I/O, GTS1 (io), E6 I/O (io), E7 I/O (io), E8 I/O (io), E9 I/O (io), E10 I/O (io), E11 I/O (io), F1 I/O (io), F2 I/O (io), F3 I/O (io), F5 I/O (io), G1 I/O (io), G2 I/O (io), G3 I/O (io), G4 I/O (io), G5 I/O (io), H1 I/O (io), H2 I/O (io), H3 I/O (io), H4 I/O (io), H5 I/O (io), J1 I/O (io), J2 I/O (io), J3 I/O (io), J4 I/O (io), J5 I/O (io), K1 I/O (io), K2 I/O (io), K3 I/O (io), K4 I/O (io), K5 I/O (io), L1 I/O (io), L2 I/O (io), L3 I/O (io), L4 I/O (io), L5 I/O (io), M1 I/O (io), M2 I/O, GCK0 (io), M3 I/O, GCK1 (io), M4 I/O (io), M5 I/O (io), M6 I/O (io), M7 I/O (io), N1 I/O (io), N2 I/O (io), N3 I/O (io), N4 I/O (io), N5 I/O (io), N6 I/O (io), N7 I/O (io), P1 I/O (io), P2 I/O, CDRST (io), P4 I/O (io), P5 I/O, GCK2 (io), P6 I/O (io), P7 I/O (io), R1 I/O (io), R2 I/O (io), R3 I/O (io), R4 I/O (io), R5 I/O (io), R6 I/O (io), R7 I/O (io), T1 I/O (io), T2 I/O, DGE (io), T3 I/O (io), T4 I/O (io), T5 I/O (io), T6 I/O (io)
part B pins: A9 I/O (io), A11 I/O (io), A12 I/O (io), A13 I/O (io), A14 I/O (io), A15 I/O (io), A16 I/O (io), B9 I/O (io), B10 I/O (io), B11 I/O (io), B12 I/O (io), B13 I/O (io), B14 I/O (io), B15 I/O (io), B16 I/O (io), C9 I/O (io), C10 I/O (io), C11 I/O (io), C12 I/O (io), C13 I/O (io), C14 I/O (io), C15 I/O (io), C16 I/O (io), D9 I/O (io), D10 I/O (io), D11 I/O (io), D13 I/O (io), D14 I/O (io), D15 I/O (io), D16 I/O (io), E12 I/O (io), E13 I/O (io), E14 I/O (io), E15 I/O (io), E16 I/O (io), F12 I/O (io), F13 I/O (io), F14 I/O (io), F15 I/O (io), F16 I/O (io), G11 I/O (io), G12 I/O (io), G13 I/O (io), G14 I/O (io), G15 I/O (io), G16 I/O (io), H12 I/O (io), H13 I/O (io), H14 I/O (io), H15 I/O (io), H16 I/O (io), J12 I/O (io), J13 I/O (io), J14 I/O (io), J15 I/O (io), J16 I/O (io), K12 I/O (io), K14 I/O (io), K15 I/O (io), K16 I/O (io), L12 I/O (io), L13 I/O (io), L14 I/O (io), L15 I/O (io), L16 I/O (io), M8 I/O (io), M9 I/O (io), M10 I/O (io), M11 I/O (io), M12 I/O (io), M13 I/O (io), M14 I/O (io), M15 I/O (io), M16 I/O (io), N8 I/O (io), N9 I/O (io), N10 I/O (io), N11 I/O (io), N13 I/O (io), N14 I/O (io), N15 I/O (io), N16 I/O (io), P8 I/O (io), P9 I/O (io), P10 I/O (io), P11 I/O (io), P13 I/O (io), P14 I/O (io), P15 I/O (io), P16 I/O (io), R8 I/O (io), R9 I/O (io), R10 I/O (io), R12 I/O (io), R13 I/O (io), R14 I/O (io), R15 I/O (io), R16 I/O (io), T7 I/O (io), T8 I/O (io), T9 I/O (io), T10 I/O (io), T11 I/O (io), T12 I/O (io), T13 I/O (io), T14 I/O (io), T15 I/O (io), T16 I/O (io)
part C pins: A10 TDO (hiz), D5 VCC (power), D12 VCC (power), F4 VAUX (power), F6 GND (power), F7 VCCIO2 (power), F8 VCCIO2 (power), F9 VCCIO4 (power), F10 VCCIO4 (power), F11 GND (power), G6 VCCIO2 (power), G7 GND (power), G8 GND (power), G9 GND (power), G10 GND (power), H6 VCCIO2 (power), H7 GND (power), H8 GND (power), H9 GND (power), H10 GND (power), H11 VCCIO4 (power), J6 VCCIO1 (power), J7 GND (power), J8 GND (power), J9 GND (power), J10 GND (power), J11 VCCIO3 (power), K6 VCCIO1 (power), K7 GND (power), K8 GND (power), K9 GND (power), K10 GND (power), K11 VCCIO3 (power), K13 VCC (power), L6 GND (power), L7 VCCIO1 (power), L8 VCCIO1 (power), L9 VCCIO3 (power), L10 VCCIO3 (power), L11 GND (power), N12 TMS (in), P3 VCC (power), P12 TCK (in), R11 TDI (in)

## XC2C384-10PQ208C
designator U?
CoolRunner-II, 1.8V, 384 Macrocell CPLD, 208-Pin PQFP, Commercial Grade; PackageDocument: ver1.1, Oct-2002; Published: 23-Sep-2002; DatasheetDocument: ver2.2, Jan-2004; PackageReference: PQ208; Publisher: Altium Limited; Code_JEDEC: MS-029-FA-1
footprint PQ208 (208-Pin Plastic Quad Flat Pack (PQ208))
3D model XC2C384-PQ208 (208-Pin Plastic Quad Flat Pack (PQ208))
signal-integrity model XC2C384_PQ208 (CoolRunner-II)
part A pins: 2 I/O (io), 3 I/O, GTS2 (io), 4 I/O (io), 5 I/O, GTS3 (io), 6 I/O (io), 7 I/O, GTS0 (io), 8 I/O (io), 9 I/O, GTS1 (io), 10 I/O (io), 12 I/O (io), 14 I/O (io), 15 I/O (io), 16 I/O (io), 17 I/O (io), 18 I/O (io), 19 I/O (io), 20 I/O (io), 21 I/O (io), 22 I/O (io), 23 I/O (io), 25 I/O (io), 27 I/O (io), 28 I/O (io), 29 I/O (io), 30 I/O (io), 31 I/O (io), 32 I/O (io), 34 I/O (io), 35 I/O (io), 36 I/O (io), 37 I/O (io), 38 I/O (io), 39 I/O (io), 40 I/O (io), 41 I/O (io), 43 I/O (io), 44 I/O, GCK0 (io), 45 I/O (io), 46 I/O, GCK1 (io), 47 I/O (io), 48 I/O (io), 49 I/O (io), 50 I/O (io), 51 I/O, CDRST (io), 54 I/O (io), 55 I/O, GCK2 (io), 56 I/O (io), 57 I/O (io), 58 I/O, DGE (io), 60 I/O (io), 61 I/O (io), 62 I/O (io), 63 I/O (io), 64 I/O (io), 65 I/O (io), 66 I/O (io), 67 I/O (io), 69 I/O (io), 70 I/O (io), 71 I/O (io), 72 I/O (io), 73 I/O (io), 74 I/O (io), 75 I/O (io), 76 I/O (io), 77 I/O (io), 78 I/O (io), 183 I/O (io), 184 I/O (io), 185 I/O (io), 186 I/O (io), 187 I/O (io), 188 I/O (io), 189 I/O (io), 191 I/O (io), 192 I/O (io), 193 I/O (io), 194 I/O (io), 195 I/O (io), 196 I/O (io), 197 I/O (io), 198 I/O (io), 199 I/O (io), 200 I/O (io), 201 I/O (io), 202 I/O (io), 203 I/O (io), 205 I/O (io), 206 I/O, GSR (io), 208 I/O (io)
part B pins: 80 I/O (io), 82 I/O (io), 83 I/O (io), 84 I/O (io), 85 I/O (io), 86 I/O (io), 87 I/O (io), 88 I/O (io), 89 I/O (io), 90 I/O (io), 91 I/O (io), 95 I/O (io), 97 I/O (io), 99 I/O (io), 100 I/O (io), 101 I/O (io), 102 I/O (io), 103 I/O (io), 106 I/O (io), 107 I/O (io), 108 I/O (io), 109 I/O (io), 110 I/O (io), 111 I/O (io), 112 I/O (io), 113 I/O (io), 114 I/O (io), 115 I/O (io), 116 I/O (io), 117 I/O (io), 118 I/O (io), 119 I/O (io), 120 I/O (io), 121 I/O (io), 122 I/O (io), 123 I/O (io), 125 I/O (io), 126 I/O (io), 127 I/O (io), 128 I/O (io), 131 I/O (io), 134 I/O (io), 135 I/O (io), 136 I/O (io), 137 I/O (io), 138 I/O (io), 139 I/O (io), 140 I/O (io), 142 I/O (io), 143 I/O (io), 144 I/O (io), 145 I/O (io), 146 I/O (io), 147 I/O (io), 148 I/O (io), 149 I/O (io), 150 I/O (io), 151 I/O (io), 152 I/O (io), 153 I/O (io), 154 I/O (io), 155 I/O (io), 158 I/O (io), 159 I/O (io), 160 I/O (io), 161 I/O (io), 162 I/O (io), 163 I/O (io), 164 I/O (io), 165 I/O (io), 166 I/O (io), 167 I/O (io), 168 I/O (io), 169 I/O (io), 170 I/O (io), 171 I/O (io), 173 I/O (io), 174 I/O (io), 175 I/O (io), 178 I/O (io), 179 I/O (io), 180 I/O (io), 182 I/O (io)
part C pins: 1 VCC (power), 11 VAUX (power), 13 GND (power), 24 GND (power), 26 VCCIO2 (power), 33 VCCIO1 (power), 42 GND (power), 52 GND (power), 53 VCC (power), 59 VCCIO1 (power), 68 GND (power), 79 VCCIO1 (power), 81 GND (power), 92 VCCIO3 (power), 93 GND (power), 94 TDI (in), 96 TMS (in), 98 TCK (in), 104 GND (power), 105 VCCIO3 (power), 124 VCC (power), 129 GND (power), 130 GND (power), 132 VCCIO3 (power), 133 VCCIO4 (power), 141 GND (power), 156 GND (power), 157 VCCIO4 (power), 172 VCCIO4 (power), 176 TDO (hiz), 177 GND (power), 181 VCCIO4 (power), 190 GND (power), 204 VCCIO2 (power), 207 GND (power)

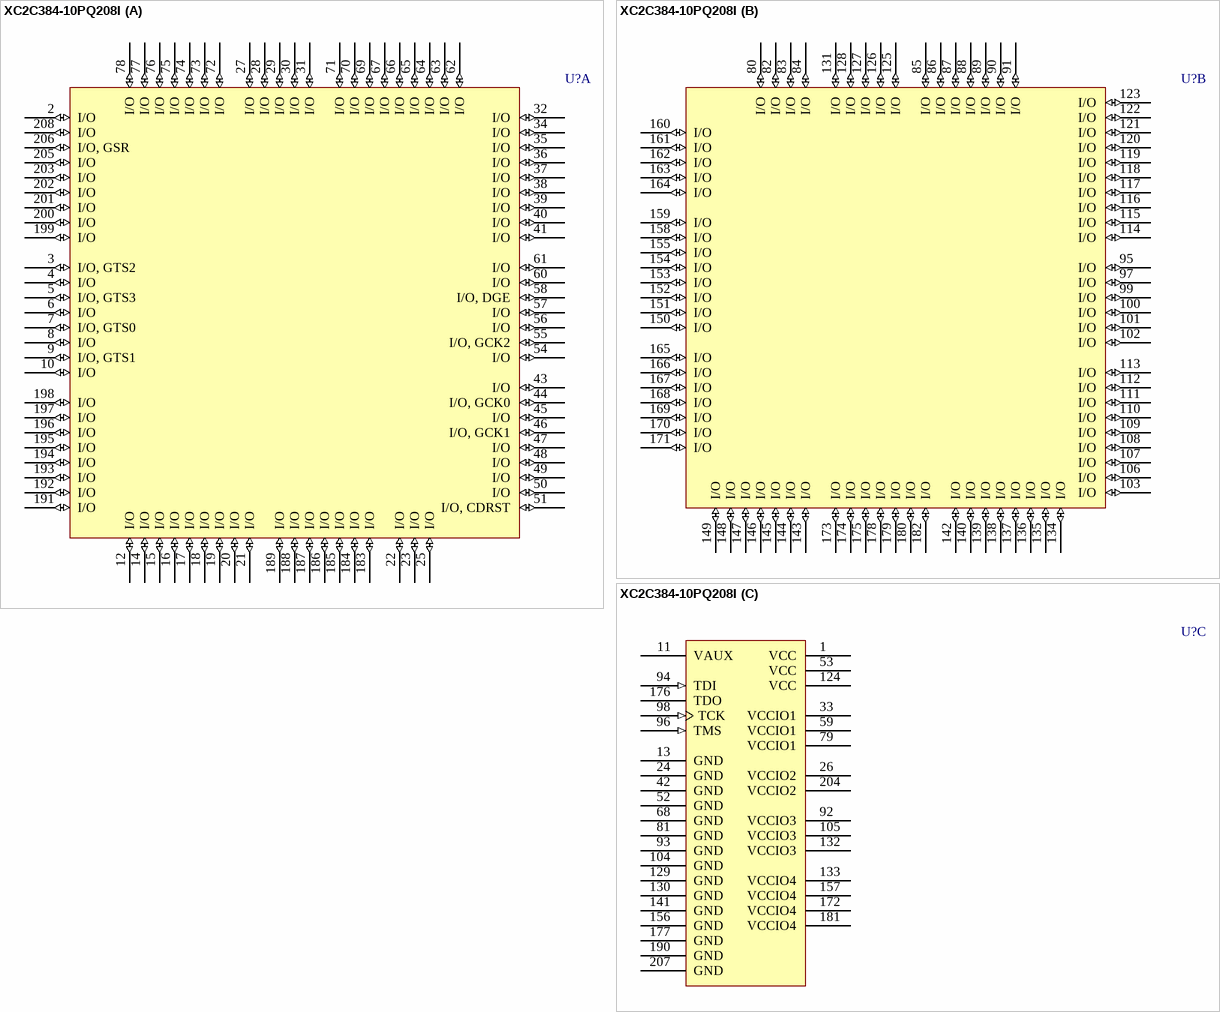
[diagram p30: symbol XC2C384-10PQ208I]

## XC2C384-10PQ208I
designator U?
CoolRunner-II, 1.8V, 384 Macrocell CPLD, 208-Pin PQFP, Industrial Grade; PackageDocument: ver1.1, Oct-2002; Published: 23-Sep-2002; DatasheetDocument: ver2.2, Jan-2004; PackageReference: PQ208; Publisher: Altium Limited; Code_JEDEC: MS-029-FA-1
footprint PQ208 (208-Pin Plastic Quad Flat Pack (PQ208))
3D model XC2C384-PQ208 (208-Pin Plastic Quad Flat Pack (PQ208))
signal-integrity model XC2C384_PQ208 (CoolRunner-II)
part A pins: 2 I/O (io), 3 I/O, GTS2 (io), 4 I/O (io), 5 I/O, GTS3 (io), 6 I/O (io), 7 I/O, GTS0 (io), 8 I/O (io), 9 I/O, GTS1 (io), 10 I/O (io), 12 I/O (io), 14 I/O (io), 15 I/O (io), 16 I/O (io), 17 I/O (io), 18 I/O (io), 19 I/O (io), 20 I/O (io), 21 I/O (io), 22 I/O (io), 23 I/O (io), 25 I/O (io), 27 I/O (io), 28 I/O (io), 29 I/O (io), 30 I/O (io), 31 I/O (io), 32 I/O (io), 34 I/O (io), 35 I/O (io), 36 I/O (io), 37 I/O (io), 38 I/O (io), 39 I/O (io), 40 I/O (io), 41 I/O (io), 43 I/O (io), 44 I/O, GCK0 (io), 45 I/O (io), 46 I/O, GCK1 (io), 47 I/O (io), 48 I/O (io), 49 I/O (io), 50 I/O (io), 51 I/O, CDRST (io), 54 I/O (io), 55 I/O, GCK2 (io), 56 I/O (io), 57 I/O (io), 58 I/O, DGE (io), 60 I/O (io), 61 I/O (io), 62 I/O (io), 63 I/O (io), 64 I/O (io), 65 I/O (io), 66 I/O (io), 67 I/O (io), 69 I/O (io), 70 I/O (io), 71 I/O (io), 72 I/O (io), 73 I/O (io), 74 I/O (io), 75 I/O (io), 76 I/O (io), 77 I/O (io), 78 I/O (io), 183 I/O (io), 184 I/O (io), 185 I/O (io), 186 I/O (io), 187 I/O (io), 188 I/O (io), 189 I/O (io), 191 I/O (io), 192 I/O (io), 193 I/O (io), 194 I/O (io), 195 I/O (io), 196 I/O (io), 197 I/O (io), 198 I/O (io), 199 I/O (io), 200 I/O (io), 201 I/O (io), 202 I/O (io), 203 I/O (io), 205 I/O (io), 206 I/O, GSR (io), 208 I/O (io)
part B pins: 80 I/O (io), 82 I/O (io), 83 I/O (io), 84 I/O (io), 85 I/O (io), 86 I/O (io), 87 I/O (io), 88 I/O (io), 89 I/O (io), 90 I/O (io), 91 I/O (io), 95 I/O (io), 97 I/O (io), 99 I/O (io), 100 I/O (io), 101 I/O (io), 102 I/O (io), 103 I/O (io), 106 I/O (io), 107 I/O (io), 108 I/O (io), 109 I/O (io), 110 I/O (io), 111 I/O (io), 112 I/O (io), 113 I/O (io), 114 I/O (io), 115 I/O (io), 116 I/O (io), 117 I/O (io), 118 I/O (io), 119 I/O (io), 120 I/O (io), 121 I/O (io), 122 I/O (io), 123 I/O (io), 125 I/O (io), 126 I/O (io), 127 I/O (io), 128 I/O (io), 131 I/O (io), 134 I/O (io), 135 I/O (io), 136 I/O (io), 137 I/O (io), 138 I/O (io), 139 I/O (io), 140 I/O (io), 142 I/O (io), 143 I/O (io), 144 I/O (io), 145 I/O (io), 146 I/O (io), 147 I/O (io), 148 I/O (io), 149 I/O (io), 150 I/O (io), 151 I/O (io), 152 I/O (io), 153 I/O (io), 154 I/O (io), 155 I/O (io), 158 I/O (io), 159 I/O (io), 160 I/O (io), 161 I/O (io), 162 I/O (io), 163 I/O (io), 164 I/O (io), 165 I/O (io), 166 I/O (io), 167 I/O (io), 168 I/O (io), 169 I/O (io), 170 I/O (io), 171 I/O (io), 173 I/O (io), 174 I/O (io), 175 I/O (io), 178 I/O (io), 179 I/O (io), 180 I/O (io), 182 I/O (io)
part C pins: 1 VCC (power), 11 VAUX (power), 13 GND (power), 24 GND (power), 26 VCCIO2 (power), 33 VCCIO1 (power), 42 GND (power), 52 GND (power), 53 VCC (power), 59 VCCIO1 (power), 68 GND (power), 79 VCCIO1 (power), 81 GND (power), 92 VCCIO3 (power), 93 GND (power), 94 TDI (in), 96 TMS (in), 98 TCK (in), 104 GND (power), 105 VCCIO3 (power), 124 VCC (power), 129 GND (power), 130 GND (power), 132 VCCIO3 (power), 133 VCCIO4 (power), 141 GND (power), 156 GND (power), 157 VCCIO4 (power), 172 VCCIO4 (power), 176 TDO (hiz), 177 GND (power), 181 VCCIO4 (power), 190 GND (power), 204 VCCIO2 (power), 207 GND (power)

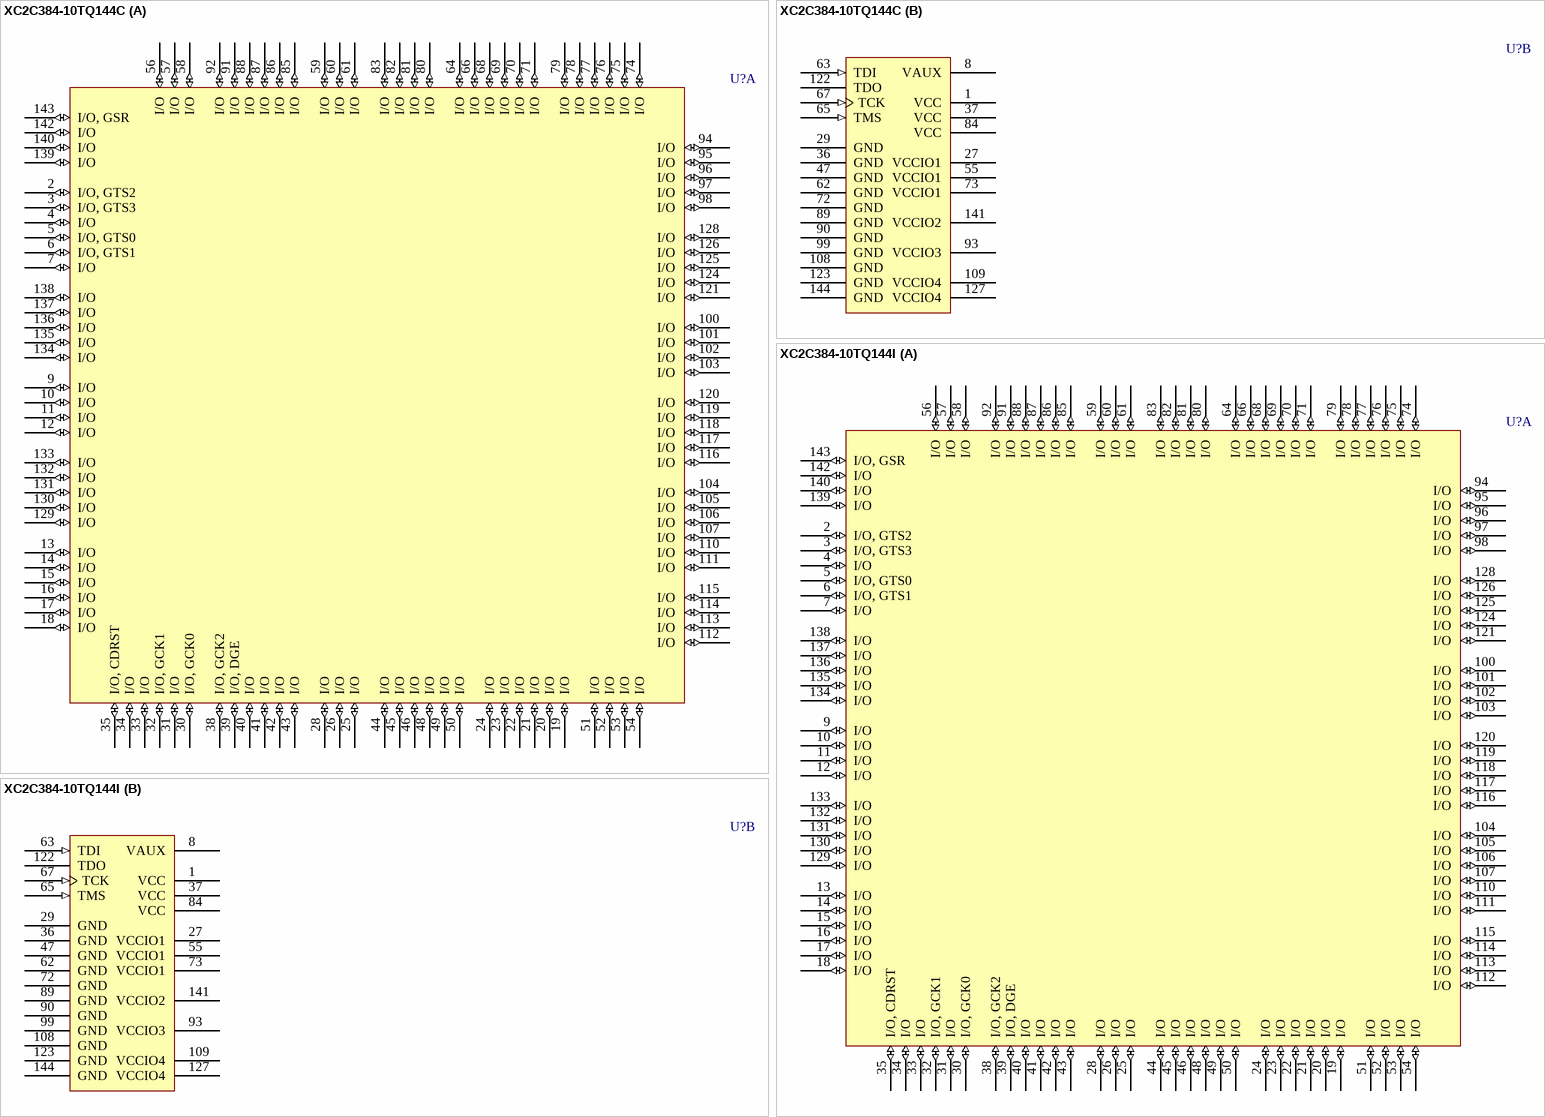
[diagram p31: symbols XC2C384-10TQ144C to XC2C384-10TQ144I]

## XC2C384-10TQ144C
designator U?
CoolRunner-II, 1.8V, 384 Macrocell CPLD, 144-Pin TQFP, Commercial Grade; PackageDocument: ver1.1, Oct-2002; Published: 23-Sep-2002; DatasheetDocument: ver2.2, Jan-2004; PackageReference: TQ144; Publisher: Altium Limited; Code_JEDEC: MS-026-BFB; Code_IPC: SQFP20X20-144
footprint TQ144 (144-Pin Thin Quad Flat Pack (TQ144))
3D model XC2C384-TQ144 (144-Pin Thin Quad Flat Pack (TQ144))
signal-integrity model XC2C384_TQ144 (CoolRunner-II)
part A pins: 2 I/O, GTS2 (io), 3 I/O, GTS3 (io), 4 I/O (io), 5 I/O, GTS0 (io), 6 I/O, GTS1 (io), 7 I/O (io), 9 I/O (io), 10 I/O (io), 11 I/O (io), 12 I/O (io), 13 I/O (io), 14 I/O (io), 15 I/O (io), 16 I/O (io), 17 I/O (io), 18 I/O (io), 19 I/O (io), 20 I/O (io), 21 I/O (io), 22 I/O (io), 23 I/O (io), 24 I/O (io), 25 I/O (io), 26 I/O (io), 28 I/O (io), 30 I/O, GCK0 (io), 31 I/O (io), 32 I/O, GCK1 (io), 33 I/O (io), 34 I/O (io), 35 I/O, CDRST (io), 38 I/O, GCK2 (io), 39 I/O, DGE (io), 40 I/O (io), 41 I/O (io), 42 I/O (io), 43 I/O (io), 44 I/O (io), 45 I/O (io), 46 I/O (io), 48 I/O (io), 49 I/O (io), 50 I/O (io), 51 I/O (io), 52 I/O (io), 53 I/O (io), 54 I/O (io), 56 I/O (io), 57 I/O (io), 58 I/O (io), 59 I/O (io), 60 I/O (io), 61 I/O (io), 64 I/O (io), 66 I/O (io), 68 I/O (io), 69 I/O (io), 70 I/O (io), 71 I/O (io), 74 I/O (io), 75 I/O (io), 76 I/O (io), 77 I/O (io), 78 I/O (io), 79 I/O (io), 80 I/O (io), 81 I/O (io), 82 I/O (io), 83 I/O (io), 85 I/O (io), 86 I/O (io), 87 I/O (io), 88 I/O (io), 91 I/O (io), 92 I/O (io), 94 I/O (io), 95 I/O (io), 96 I/O (io), 97 I/O (io), 98 I/O (io), 100 I/O (io), 101 I/O (io), 102 I/O (io), 103 I/O (io), 104 I/O (io), 105 I/O (io), 106 I/O (io), 107 I/O (io), 110 I/O (io), 111 I/O (io), 112 I/O (io), 113 I/O (io), 114 I/O (io), 115 I/O (io), 116 I/O (io), 117 I/O (io), 118 I/O (io), 119 I/O (io), 120 I/O (io), 121 I/O (io), 124 I/O (io), 125 I/O (io), 126 I/O (io), 128 I/O (io), 129 I/O (io), 130 I/O (io), 131 I/O (io), 132 I/O (io), 133 I/O (io), 134 I/O (io), 135 I/O (io), 136 I/O (io), 137 I/O (io), 138 I/O (io), 139 I/O (io), 140 I/O (io), 142 I/O (io), 143 I/O, GSR (io)
part B pins: 1 VCC (power), 8 VAUX (power), 27 VCCIO1 (power), 29 GND (power), 36 GND (power), 37 VCC (power), 47 GND (power), 55 VCCIO1 (power), 62 GND (power), 63 TDI (in), 65 TMS (in), 67 TCK (in), 72 GND (power), 73 VCCIO1 (power), 84 VCC (power), 89 GND (power), 90 GND (power), 93 VCCIO3 (power), 99 GND (power), 108 GND (power), 109 VCCIO4 (power), 122 TDO (hiz), 123 GND (power), 127 VCCIO4 (power), 141 VCCIO2 (power), 144 GND (power)

## XC2C384-10TQ144I
designator U?
CoolRunner-II, 1.8V, 384 Macrocell CPLD, 144-Pin TQFP, Industrial Grade; PackageDocument: ver1.1, Oct-2002; Published: 23-Sep-2002; DatasheetDocument: ver2.2, Jan-2004; PackageReference: TQ144; Publisher: Altium Limited; Code_JEDEC: MS-026-BFB; Code_IPC: SQFP20X20-144
footprint TQ144 (144-Pin Thin Quad Flat Pack (TQ144))
3D model XC2C384-TQ144 (144-Pin Thin Quad Flat Pack (TQ144))
signal-integrity model XC2C384_TQ144 (CoolRunner-II)
part A pins: 2 I/O, GTS2 (io), 3 I/O, GTS3 (io), 4 I/O (io), 5 I/O, GTS0 (io), 6 I/O, GTS1 (io), 7 I/O (io), 9 I/O (io), 10 I/O (io), 11 I/O (io), 12 I/O (io), 13 I/O (io), 14 I/O (io), 15 I/O (io), 16 I/O (io), 17 I/O (io), 18 I/O (io), 19 I/O (io), 20 I/O (io), 21 I/O (io), 22 I/O (io), 23 I/O (io), 24 I/O (io), 25 I/O (io), 26 I/O (io), 28 I/O (io), 30 I/O, GCK0 (io), 31 I/O (io), 32 I/O, GCK1 (io), 33 I/O (io), 34 I/O (io), 35 I/O, CDRST (io), 38 I/O, GCK2 (io), 39 I/O, DGE (io), 40 I/O (io), 41 I/O (io), 42 I/O (io), 43 I/O (io), 44 I/O (io), 45 I/O (io), 46 I/O (io), 48 I/O (io), 49 I/O (io), 50 I/O (io), 51 I/O (io), 52 I/O (io), 53 I/O (io), 54 I/O (io), 56 I/O (io), 57 I/O (io), 58 I/O (io), 59 I/O (io), 60 I/O (io), 61 I/O (io), 64 I/O (io), 66 I/O (io), 68 I/O (io), 69 I/O (io), 70 I/O (io), 71 I/O (io), 74 I/O (io), 75 I/O (io), 76 I/O (io), 77 I/O (io), 78 I/O (io), 79 I/O (io), 80 I/O (io), 81 I/O (io), 82 I/O (io), 83 I/O (io), 85 I/O (io), 86 I/O (io), 87 I/O (io), 88 I/O (io), 91 I/O (io), 92 I/O (io), 94 I/O (io), 95 I/O (io), 96 I/O (io), 97 I/O (io), 98 I/O (io), 100 I/O (io), 101 I/O (io), 102 I/O (io), 103 I/O (io), 104 I/O (io), 105 I/O (io), 106 I/O (io), 107 I/O (io), 110 I/O (io), 111 I/O (io), 112 I/O (io), 113 I/O (io), 114 I/O (io), 115 I/O (io), 116 I/O (io), 117 I/O (io), 118 I/O (io), 119 I/O (io), 120 I/O (io), 121 I/O (io), 124 I/O (io), 125 I/O (io), 126 I/O (io), 128 I/O (io), 129 I/O (io), 130 I/O (io), 131 I/O (io), 132 I/O (io), 133 I/O (io), 134 I/O (io), 135 I/O (io), 136 I/O (io), 137 I/O (io), 138 I/O (io), 139 I/O (io), 140 I/O (io), 142 I/O (io), 143 I/O, GSR (io)
part B pins: 1 VCC (power), 8 VAUX (power), 27 VCCIO1 (power), 29 GND (power), 36 GND (power), 37 VCC (power), 47 GND (power), 55 VCCIO1 (power), 62 GND (power), 63 TDI (in), 65 TMS (in), 67 TCK (in), 72 GND (power), 73 VCCIO1 (power), 84 VCC (power), 89 GND (power), 90 GND (power), 93 VCCIO3 (power), 99 GND (power), 108 GND (power), 109 VCCIO4 (power), 122 TDO (hiz), 123 GND (power), 127 VCCIO4 (power), 141 VCCIO2 (power), 144 GND (power)

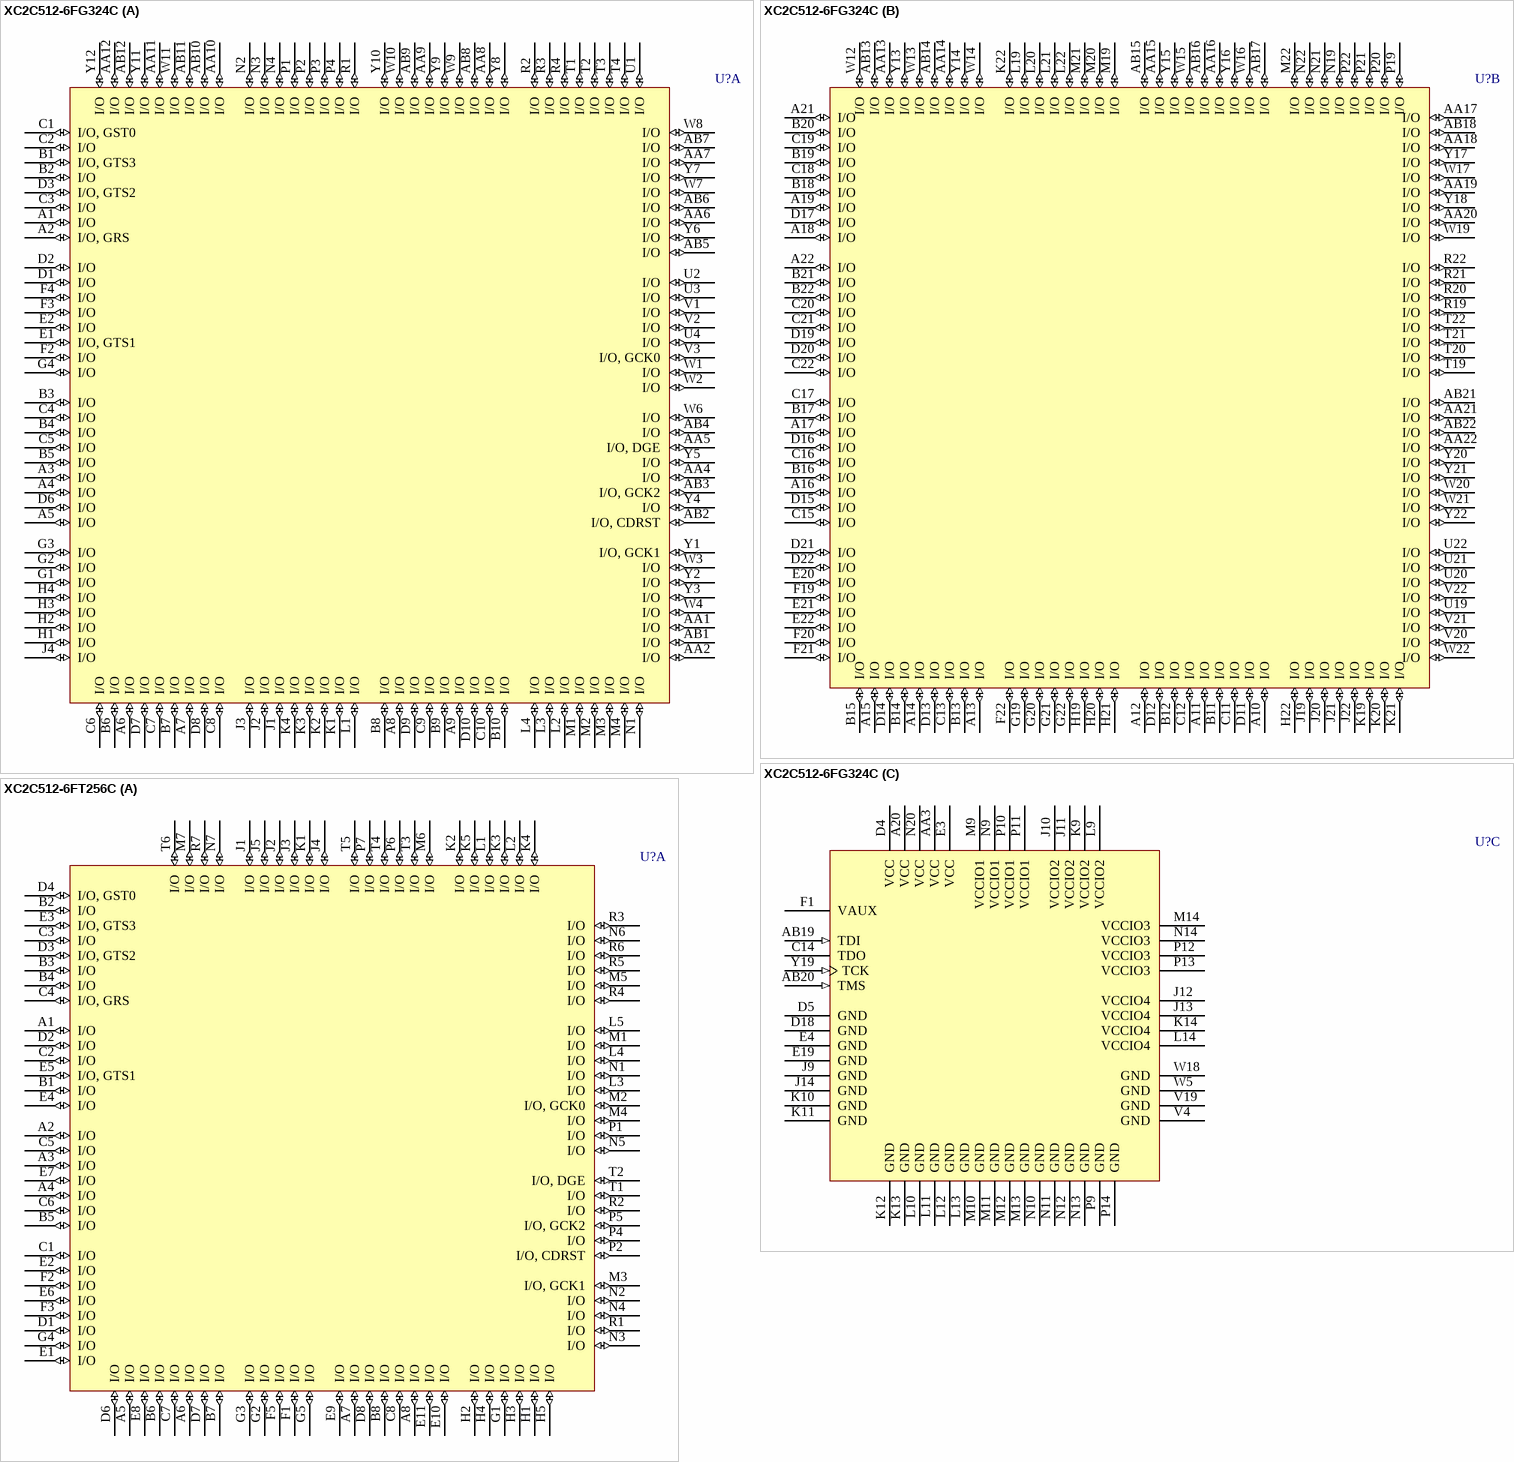
[diagram p32: symbols XC2C512-6FG324C to XC2C512-6FT256C]

## XC2C512-6FG324C
designator U?
CoolRunner-II, 1.8V, 512 Macrocell CPLD, 324-Ball FBGA, Commercial Grade; PackageDocument: ver1.0, Aug-2001; Published: 23-Sep-2002; DatasheetDocument: ver2.2, Jan-2004; PackageReference: FG324; Publisher: Altium Limited; Code_JEDEC: MS0-34-AAJ-1
footprint FG324 (324-Ball Fine Pitch Ball Grid Array (FG324))
3D model XC2C512-FG324 (324-Ball Fine Pitch Ball Grid Array (FG324))
signal-integrity model XC2C512_FG324 (CoolRunner-II)
part A pins: A1 I/O (io), A2 I/O, GRS (io), A3 I/O (io), A4 I/O (io), A5 I/O (io), A6 I/O (io), A7 I/O (io), A8 I/O (io), A9 I/O (io), AA1 I/O (io), AA2 I/O (io), AA4 I/O (io), AA5 I/O, DGE (io), AA6 I/O (io), AA7 I/O (io), AA8 I/O (io), AA9 I/O (io), AA10 I/O (io), AA11 I/O (io), AA12 I/O (io), AB1 I/O (io), AB2 I/O, CDRST (io), AB3 I/O, GCK2 (io), AB4 I/O (io), AB5 I/O (io), AB6 I/O (io), AB7 I/O (io), AB8 I/O (io), AB9 I/O (io), AB10 I/O (io), AB11 I/O (io), AB12 I/O (io), B1 I/O, GTS3 (io), B2 I/O (io), B3 I/O (io), B4 I/O (io), B5 I/O (io), B6 I/O (io), B7 I/O (io), B8 I/O (io), B9 I/O (io), B10 I/O (io), C1 I/O, GST0 (io), C2 I/O (io), C3 I/O (io), C4 I/O (io), C5 I/O (io), C6 I/O (io), C7 I/O (io), C8 I/O (io), C9 I/O (io), C10 I/O (io), D1 I/O (io), D2 I/O (io), D3 I/O, GTS2 (io), D6 I/O (io), D7 I/O (io), D8 I/O (io), D9 I/O (io), D10 I/O (io), E1 I/O, GTS1 (io), E2 I/O (io), F2 I/O (io), F3 I/O (io), F4 I/O (io), G1 I/O (io), G2 I/O (io), G3 I/O (io), G4 I/O (io), H1 I/O (io), H2 I/O (io), H3 I/O (io), H4 I/O (io), J1 I/O (io), J2 I/O (io), J3 I/O (io), J4 I/O (io), K1 I/O (io), K2 I/O (io), K3 I/O (io), K4 I/O (io), L1 I/O (io), L2 I/O (io), L3 I/O (io), L4 I/O (io), M1 I/O (io), M2 I/O (io), M3 I/O (io), M4 I/O (io), N1 I/O (io), N2 I/O (io), N3 I/O (io), N4 I/O (io), P1 I/O (io), P2 I/O (io), P3 I/O (io), P4 I/O (io), R1 I/O (io), R2 I/O (io), R3 I/O (io), R4 I/O (io), T1 I/O (io), T2 I/O (io), T3 I/O (io), T4 I/O (io), U1 I/O (io), U2 I/O (io), U3 I/O (io), U4 I/O (io), V1 I/O (io), V2 I/O (io), V3 I/O, GCK0 (io), W1 I/O (io), W2 I/O (io), W3 I/O (io), W4 I/O (io), W6 I/O (io), W7 I/O (io), W8 I/O (io), W9 I/O (io), W10 I/O (io), W11 I/O (io), Y1 I/O, GCK1 (io), Y2 I/O (io), Y3 I/O (io), Y4 I/O (io), Y5 I/O (io), Y6 I/O (io), Y7 I/O (io), Y8 I/O (io), Y9 I/O (io), Y10 I/O (io), Y11 I/O (io), Y12 I/O (io)
part B pins: A10 I/O (io), A11 I/O (io), A12 I/O (io), A13 I/O (io), A14 I/O (io), A15 I/O (io), A16 I/O (io), A17 I/O (io), A18 I/O (io), A19 I/O (io), A21 I/O (io), A22 I/O (io), AA13 I/O (io), AA14 I/O (io), AA15 I/O (io), AA16 I/O (io), AA17 I/O (io), AA18 I/O (io), AA19 I/O (io), AA20 I/O (io), AA21 I/O (io), AA22 I/O (io), AB13 I/O (io), AB14 I/O (io), AB15 I/O (io), AB16 I/O (io), AB17 I/O (io), AB18 I/O (io), AB21 I/O (io), AB22 I/O (io), B11 I/O (io), B12 I/O (io), B13 I/O (io), B14 I/O (io), B15 I/O (io), B16 I/O (io), B17 I/O (io), B18 I/O (io), B19 I/O (io), B20 I/O (io), B21 I/O (io), B22 I/O (io), C11 I/O (io), C12 I/O (io), C13 I/O (io), C15 I/O (io), C16 I/O (io), C17 I/O (io), C18 I/O (io), C19 I/O (io), C20 I/O (io), C21 I/O (io), C22 I/O (io), D11 I/O (io), D12 I/O (io), D13 I/O (io), D14 I/O (io), D15 I/O (io), D16 I/O (io), D17 I/O (io), D19 I/O (io), D20 I/O (io), D21 I/O (io), D22 I/O (io), E20 I/O (io), E21 I/O (io), E22 I/O (io), F19 I/O (io), F20 I/O (io), F21 I/O (io), F22 I/O (io), G19 I/O (io), G20 I/O (io), G21 I/O (io), G22 I/O (io), H19 I/O (io), H20 I/O (io), H21 I/O (io), H22 I/O (io), J19 I/O (io), J20 I/O (io), J21 I/O (io), J22 I/O (io), K19 I/O (io), K20 I/O (io), K21 I/O (io), K22 I/O (io), L19 I/O (io), L20 I/O (io), L21 I/O (io), L22 I/O (io), M19 I/O (io), M20 I/O (io), M21 I/O (io), M22 I/O (io), N19 I/O (io), N21 I/O (io), N22 I/O (io), P19 I/O (io), P20 I/O (io), P21 I/O (io), P22 I/O (io), R19 I/O (io), R20 I/O (io), R21 I/O (io), R22 I/O (io), T19 I/O (io), T20 I/O (io), T21 I/O (io), T22 I/O (io), U19 I/O (io), U20 I/O (io), U21 I/O (io), U22 I/O (io), V20 I/O (io), V21 I/O (io), V22 I/O (io), W12 I/O (io), W13 I/O (io), W14 I/O (io), W15 I/O (io), W16 I/O (io), W17 I/O (io), W19 I/O (io), W20 I/O (io), W21 I/O (io), W22 I/O (io), Y13 I/O (io), Y14 I/O (io), Y15 I/O (io), Y16 I/O (io), Y17 I/O (io), Y18 I/O (io), Y20 I/O (io), Y21 I/O (io), Y22 I/O (io)
part C pins: A20 VCC (power), AA3 VCC (power), AB19 TDI (in), AB20 TMS (in), C14 TDO (hiz), D4 VCC (power), D5 GND (power), D18 GND (power), E3 VCC (power), E4 GND (power), E19 GND (power), F1 VAUX (power), J9 GND (power), J10 VCCIO2 (power), J11 VCCIO2 (power), J12 VCCIO4 (power), J13 VCCIO4 (power), J14 GND (power), K9 VCCIO2 (power), K10 GND (power), K11 GND (power), K12 GND (power), K13 GND (power), K14 VCCIO4 (power), L9 VCCIO2 (power), L10 GND (power), L11 GND (power), L12 GND (power), L13 GND (power), L14 VCCIO4 (power), M9 VCCIO1 (power), M10 GND (power), M11 GND (power), M12 GND (power), M13 GND (power), M14 VCCIO3 (power), N9 VCCIO1 (power), N10 GND (power), N11 GND (power), N12 GND (power), N13 GND (power), N14 VCCIO3 (power), N20 VCC (power), P9 GND (power), P10 VCCIO1 (power), P11 VCCIO1 (power), P12 VCCIO3 (power), P13 VCCIO3 (power), P14 GND (power), V4 GND (power), V19 GND (power), W5 GND (power), W18 GND (power), Y19 TCK (in)

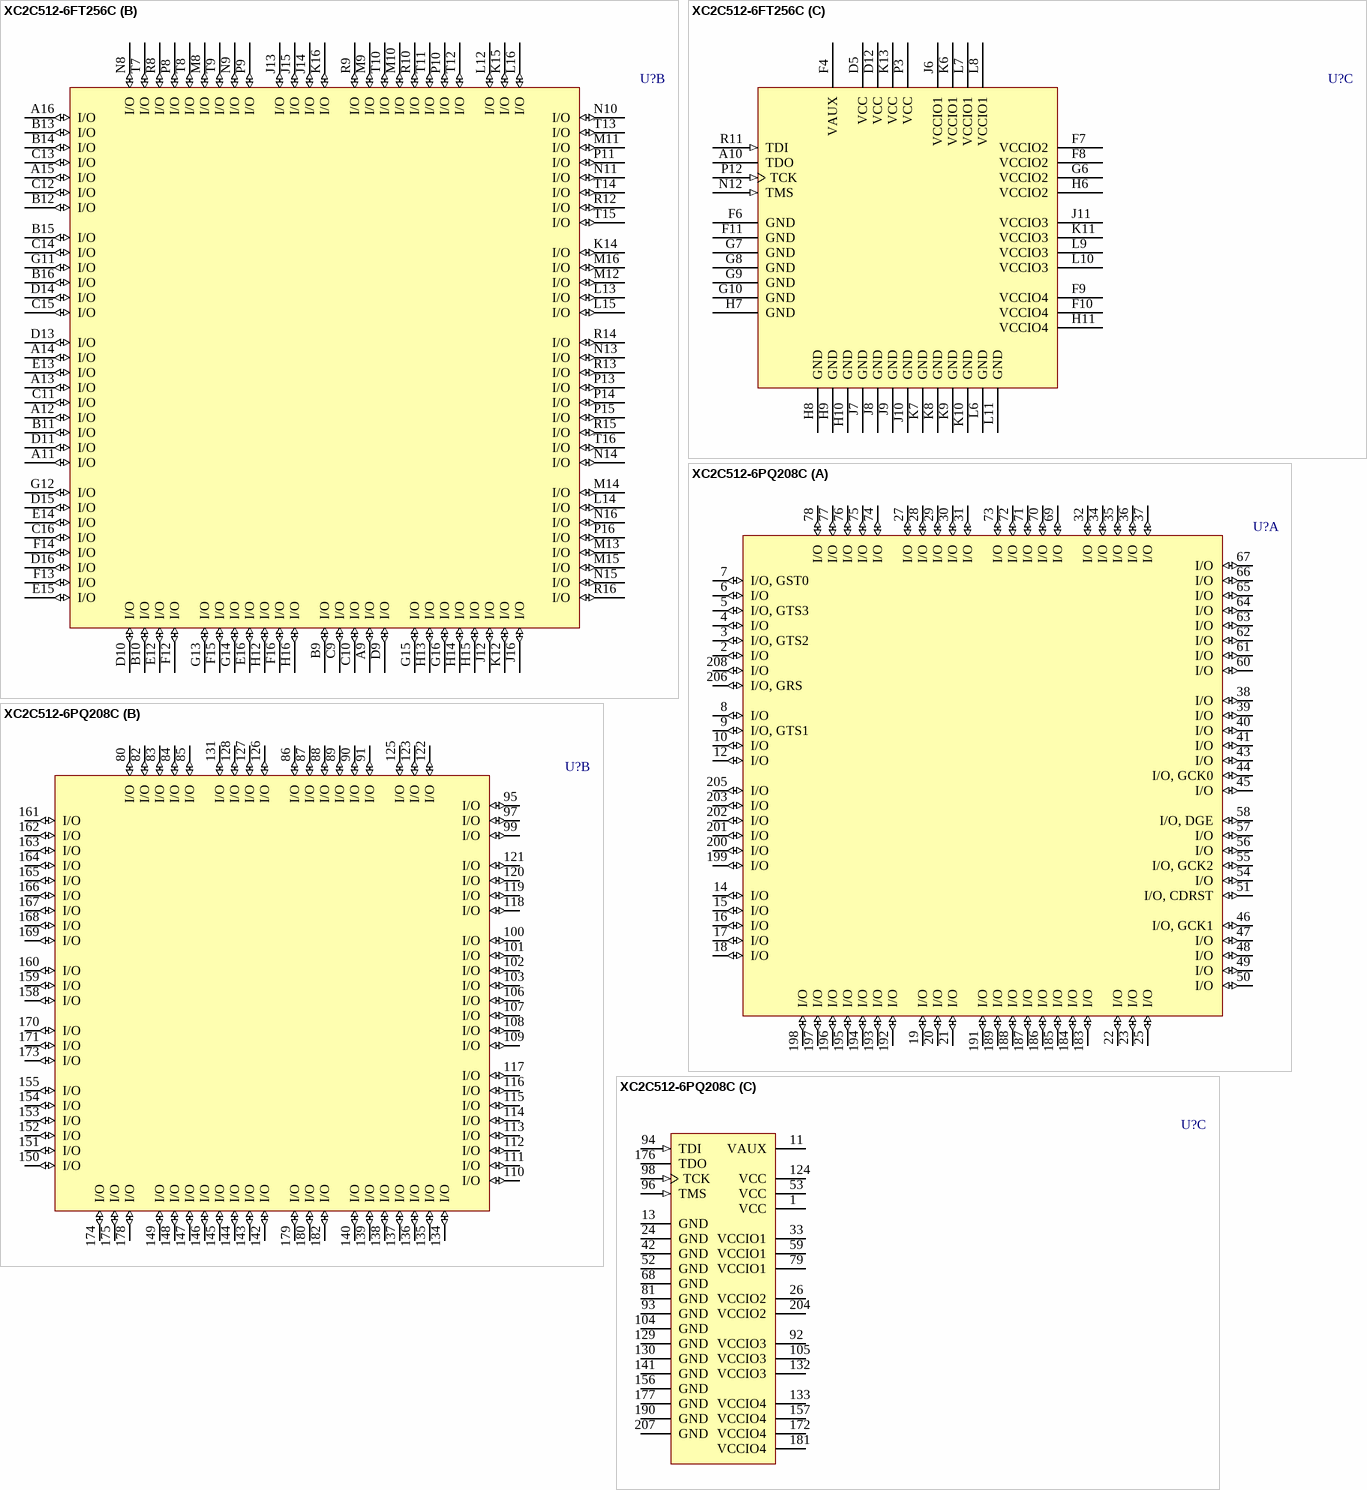
[diagram p33: symbols XC2C512-6FT256C to XC2C512-6PQ208C]

## XC2C512-6FT256C
designator U?
CoolRunner-II, 1.8V, 512 Macrocell CPLD, 256-Ball FTBGA, Commercial Grade; PackageDocument: ver1.0, Apr-2001; Published: 23-Sep-2002; DatasheetDocument: ver2.2, Jan-2004; PackageReference: FT256; Publisher: Altium Limited; Code_JEDEC: MS-034-AAF-1*
footprint FT256 (256-Ball Fine Pitch Thin Ball Grid Array (FT256))
3D model XC2C512-FT256 (256-Ball Fine Pitch Thin Ball Grid Array (FT256))
signal-integrity model XC2C512_FT256 (CoolRunner-II)
part A pins: A1 I/O (io), A2 I/O (io), A3 I/O (io), A4 I/O (io), A5 I/O (io), A6 I/O (io), A7 I/O (io), A8 I/O (io), B1 I/O (io), B2 I/O (io), B3 I/O (io), B4 I/O (io), B5 I/O (io), B6 I/O (io), B7 I/O (io), B8 I/O (io), C1 I/O (io), C2 I/O (io), C3 I/O (io), C4 I/O, GRS (io), C5 I/O (io), C6 I/O (io), C7 I/O (io), C8 I/O (io), D1 I/O (io), D2 I/O (io), D3 I/O, GTS2 (io), D4 I/O, GST0 (io), D6 I/O (io), D7 I/O (io), D8 I/O (io), E1 I/O (io), E2 I/O (io), E3 I/O, GTS3 (io), E4 I/O (io), E5 I/O, GTS1 (io), E6 I/O (io), E7 I/O (io), E8 I/O (io), E9 I/O (io), E10 I/O (io), E11 I/O (io), F1 I/O (io), F2 I/O (io), F3 I/O (io), F5 I/O (io), G1 I/O (io), G2 I/O (io), G3 I/O (io), G4 I/O (io), G5 I/O (io), H1 I/O (io), H2 I/O (io), H3 I/O (io), H4 I/O (io), H5 I/O (io), J1 I/O (io), J2 I/O (io), J3 I/O (io), J4 I/O (io), J5 I/O (io), K1 I/O (io), K2 I/O (io), K3 I/O (io), K4 I/O (io), K5 I/O (io), L1 I/O (io), L2 I/O (io), L3 I/O (io), L4 I/O (io), L5 I/O (io), M1 I/O (io), M2 I/O, GCK0 (io), M3 I/O, GCK1 (io), M4 I/O (io), M5 I/O (io), M6 I/O (io), M7 I/O (io), N1 I/O (io), N2 I/O (io), N3 I/O (io), N4 I/O (io), N5 I/O (io), N6 I/O (io), N7 I/O (io), P1 I/O (io), P2 I/O, CDRST (io), P4 I/O (io), P5 I/O, GCK2 (io), P6 I/O (io), P7 I/O (io), R1 I/O (io), R2 I/O (io), R3 I/O (io), R4 I/O (io), R5 I/O (io), R6 I/O (io), R7 I/O (io), T1 I/O (io), T2 I/O, DGE (io), T3 I/O (io), T4 I/O (io), T5 I/O (io), T6 I/O (io)
part B pins: A9 I/O (io), A11 I/O (io), A12 I/O (io), A13 I/O (io), A14 I/O (io), A15 I/O (io), A16 I/O (io), B9 I/O (io), B10 I/O (io), B11 I/O (io), B12 I/O (io), B13 I/O (io), B14 I/O (io), B15 I/O (io), B16 I/O (io), C9 I/O (io), C10 I/O (io), C11 I/O (io), C12 I/O (io), C13 I/O (io), C14 I/O (io), C15 I/O (io), C16 I/O (io), D9 I/O (io), D10 I/O (io), D11 I/O (io), D13 I/O (io), D14 I/O (io), D15 I/O (io), D16 I/O (io), E12 I/O (io), E13 I/O (io), E14 I/O (io), E15 I/O (io), E16 I/O (io), F12 I/O (io), F13 I/O (io), F14 I/O (io), F15 I/O (io), F16 I/O (io), G11 I/O (io), G12 I/O (io), G13 I/O (io), G14 I/O (io), G15 I/O (io), G16 I/O (io), H12 I/O (io), H13 I/O (io), H14 I/O (io), H15 I/O (io), H16 I/O (io), J12 I/O (io), J13 I/O (io), J14 I/O (io), J15 I/O (io), J16 I/O (io), K12 I/O (io), K14 I/O (io), K15 I/O (io), K16 I/O (io), L12 I/O (io), L13 I/O (io), L14 I/O (io), L15 I/O (io), L16 I/O (io), M8 I/O (io), M9 I/O (io), M10 I/O (io), M11 I/O (io), M12 I/O (io), M13 I/O (io), M14 I/O (io), M15 I/O (io), M16 I/O (io), N8 I/O (io), N9 I/O (io), N10 I/O (io), N11 I/O (io), N13 I/O (io), N14 I/O (io), N15 I/O (io), N16 I/O (io), P8 I/O (io), P9 I/O (io), P10 I/O (io), P11 I/O (io), P13 I/O (io), P14 I/O (io), P15 I/O (io), P16 I/O (io), R8 I/O (io), R9 I/O (io), R10 I/O (io), R12 I/O (io), R13 I/O (io), R14 I/O (io), R15 I/O (io), R16 I/O (io), T7 I/O (io), T8 I/O (io), T9 I/O (io), T10 I/O (io), T11 I/O (io), T12 I/O (io), T13 I/O (io), T14 I/O (io), T15 I/O (io), T16 I/O (io)
part C pins: A10 TDO (hiz), D5 VCC (power), D12 VCC (power), F4 VAUX (power), F6 GND (power), F7 VCCIO2 (power), F8 VCCIO2 (power), F9 VCCIO4 (power), F10 VCCIO4 (power), F11 GND (power), G6 VCCIO2 (power), G7 GND (power), G8 GND (power), G9 GND (power), G10 GND (power), H6 VCCIO2 (power), H7 GND (power), H8 GND (power), H9 GND (power), H10 GND (power), H11 VCCIO4 (power), J6 VCCIO1 (power), J7 GND (power), J8 GND (power), J9 GND (power), J10 GND (power), J11 VCCIO3 (power), K6 VCCIO1 (power), K7 GND (power), K8 GND (power), K9 GND (power), K10 GND (power), K11 VCCIO3 (power), K13 VCC (power), L6 GND (power), L7 VCCIO1 (power), L8 VCCIO1 (power), L9 VCCIO3 (power), L10 VCCIO3 (power), L11 GND (power), N12 TMS (in), P3 VCC (power), P12 TCK (in), R11 TDI (in)

## XC2C512-6PQ208C
designator U?
CoolRunner-II, 1.8V, 512 Macrocell CPLD, 208-Pin PQFP, Commercial Grade; PackageDocument: ver1.1, Oct-2002; Published: 23-Sep-2002; DatasheetDocument: ver2.2, Jan-2004; PackageReference: PQ208; Publisher: Altium Limited; Code_JEDEC: MS-029-FA-1
footprint PQ208 (208-Pin Plastic Quad Flat Pack (PQ208))
3D model XC2C512-PQ208 (208-Pin Plastic Quad Flat Pack (PQ208))
signal-integrity model XC2C512_PQ208 (CoolRunner-II)
part A pins: 2 I/O (io), 3 I/O, GTS2 (io), 4 I/O (io), 5 I/O, GTS3 (io), 6 I/O (io), 7 I/O, GST0 (io), 8 I/O (io), 9 I/O, GTS1 (io), 10 I/O (io), 12 I/O (io), 14 I/O (io), 15 I/O (io), 16 I/O (io), 17 I/O (io), 18 I/O (io), 19 I/O (io), 20 I/O (io), 21 I/O (io), 22 I/O (io), 23 I/O (io), 25 I/O (io), 27 I/O (io), 28 I/O (io), 29 I/O (io), 30 I/O (io), 31 I/O (io), 32 I/O (io), 34 I/O (io), 35 I/O (io), 36 I/O (io), 37 I/O (io), 38 I/O (io), 39 I/O (io), 40 I/O (io), 41 I/O (io), 43 I/O (io), 44 I/O, GCK0 (io), 45 I/O (io), 46 I/O, GCK1 (io), 47 I/O (io), 48 I/O (io), 49 I/O (io), 50 I/O (io), 51 I/O, CDRST (io), 54 I/O (io), 55 I/O, GCK2 (io), 56 I/O (io), 57 I/O (io), 58 I/O, DGE (io), 60 I/O (io), 61 I/O (io), 62 I/O (io), 63 I/O (io), 64 I/O (io), 65 I/O (io), 66 I/O (io), 67 I/O (io), 69 I/O (io), 70 I/O (io), 71 I/O (io), 72 I/O (io), 73 I/O (io), 74 I/O (io), 75 I/O (io), 76 I/O (io), 77 I/O (io), 78 I/O (io), 183 I/O (io), 184 I/O (io), 185 I/O (io), 186 I/O (io), 187 I/O (io), 188 I/O (io), 189 I/O (io), 191 I/O (io), 192 I/O (io), 193 I/O (io), 194 I/O (io), 195 I/O (io), 196 I/O (io), 197 I/O (io), 198 I/O (io), 199 I/O (io), 200 I/O (io), 201 I/O (io), 202 I/O (io), 203 I/O (io), 205 I/O (io), 206 I/O, GRS (io), 208 I/O (io)
part B pins: 80 I/O (io), 82 I/O (io), 83 I/O (io), 84 I/O (io), 85 I/O (io), 86 I/O (io), 87 I/O (io), 88 I/O (io), 89 I/O (io), 90 I/O (io), 91 I/O (io), 95 I/O (io), 97 I/O (io), 99 I/O (io), 100 I/O (io), 101 I/O (io), 102 I/O (io), 103 I/O (io), 106 I/O (io), 107 I/O (io), 108 I/O (io), 109 I/O (io), 110 I/O (io), 111 I/O (io), 112 I/O (io), 113 I/O (io), 114 I/O (io), 115 I/O (io), 116 I/O (io), 117 I/O (io), 118 I/O (io), 119 I/O (io), 120 I/O (io), 121 I/O (io), 122 I/O (io), 123 I/O (io), 125 I/O (io), 126 I/O (io), 127 I/O (io), 128 I/O (io), 131 I/O (io), 134 I/O (io), 135 I/O (io), 136 I/O (io), 137 I/O (io), 138 I/O (io), 139 I/O (io), 140 I/O (io), 142 I/O (io), 143 I/O (io), 144 I/O (io), 145 I/O (io), 146 I/O (io), 147 I/O (io), 148 I/O (io), 149 I/O (io), 150 I/O (io), 151 I/O (io), 152 I/O (io), 153 I/O (io), 154 I/O (io), 155 I/O (io), 158 I/O (io), 159 I/O (io), 160 I/O (io), 161 I/O (io), 162 I/O (io), 163 I/O (io), 164 I/O (io), 165 I/O (io), 166 I/O (io), 167 I/O (io), 168 I/O (io), 169 I/O (io), 170 I/O (io), 171 I/O (io), 173 I/O (io), 174 I/O (io), 175 I/O (io), 178 I/O (io), 179 I/O (io), 180 I/O (io), 182 I/O (io)
part C pins: 1 VCC (power), 11 VAUX (power), 13 GND (power), 24 GND (power), 26 VCCIO2 (power), 33 VCCIO1 (power), 42 GND (power), 52 GND (power), 53 VCC (power), 59 VCCIO1 (power), 68 GND (power), 79 VCCIO1 (power), 81 GND (power), 92 VCCIO3 (power), 93 GND (power), 94 TDI (in), 96 TMS (in), 98 TCK (in), 104 GND (power), 105 VCCIO3 (power), 124 VCC (power), 129 GND (power), 130 GND (power), 132 VCCIO3 (power), 133 VCCIO4 (power), 141 GND (power), 156 GND (power), 157 VCCIO4 (power), 172 VCCIO4 (power), 176 TDO (hiz), 177 GND (power), 181 VCCIO4 (power), 190 GND (power), 204 VCCIO2 (power), 207 GND (power)

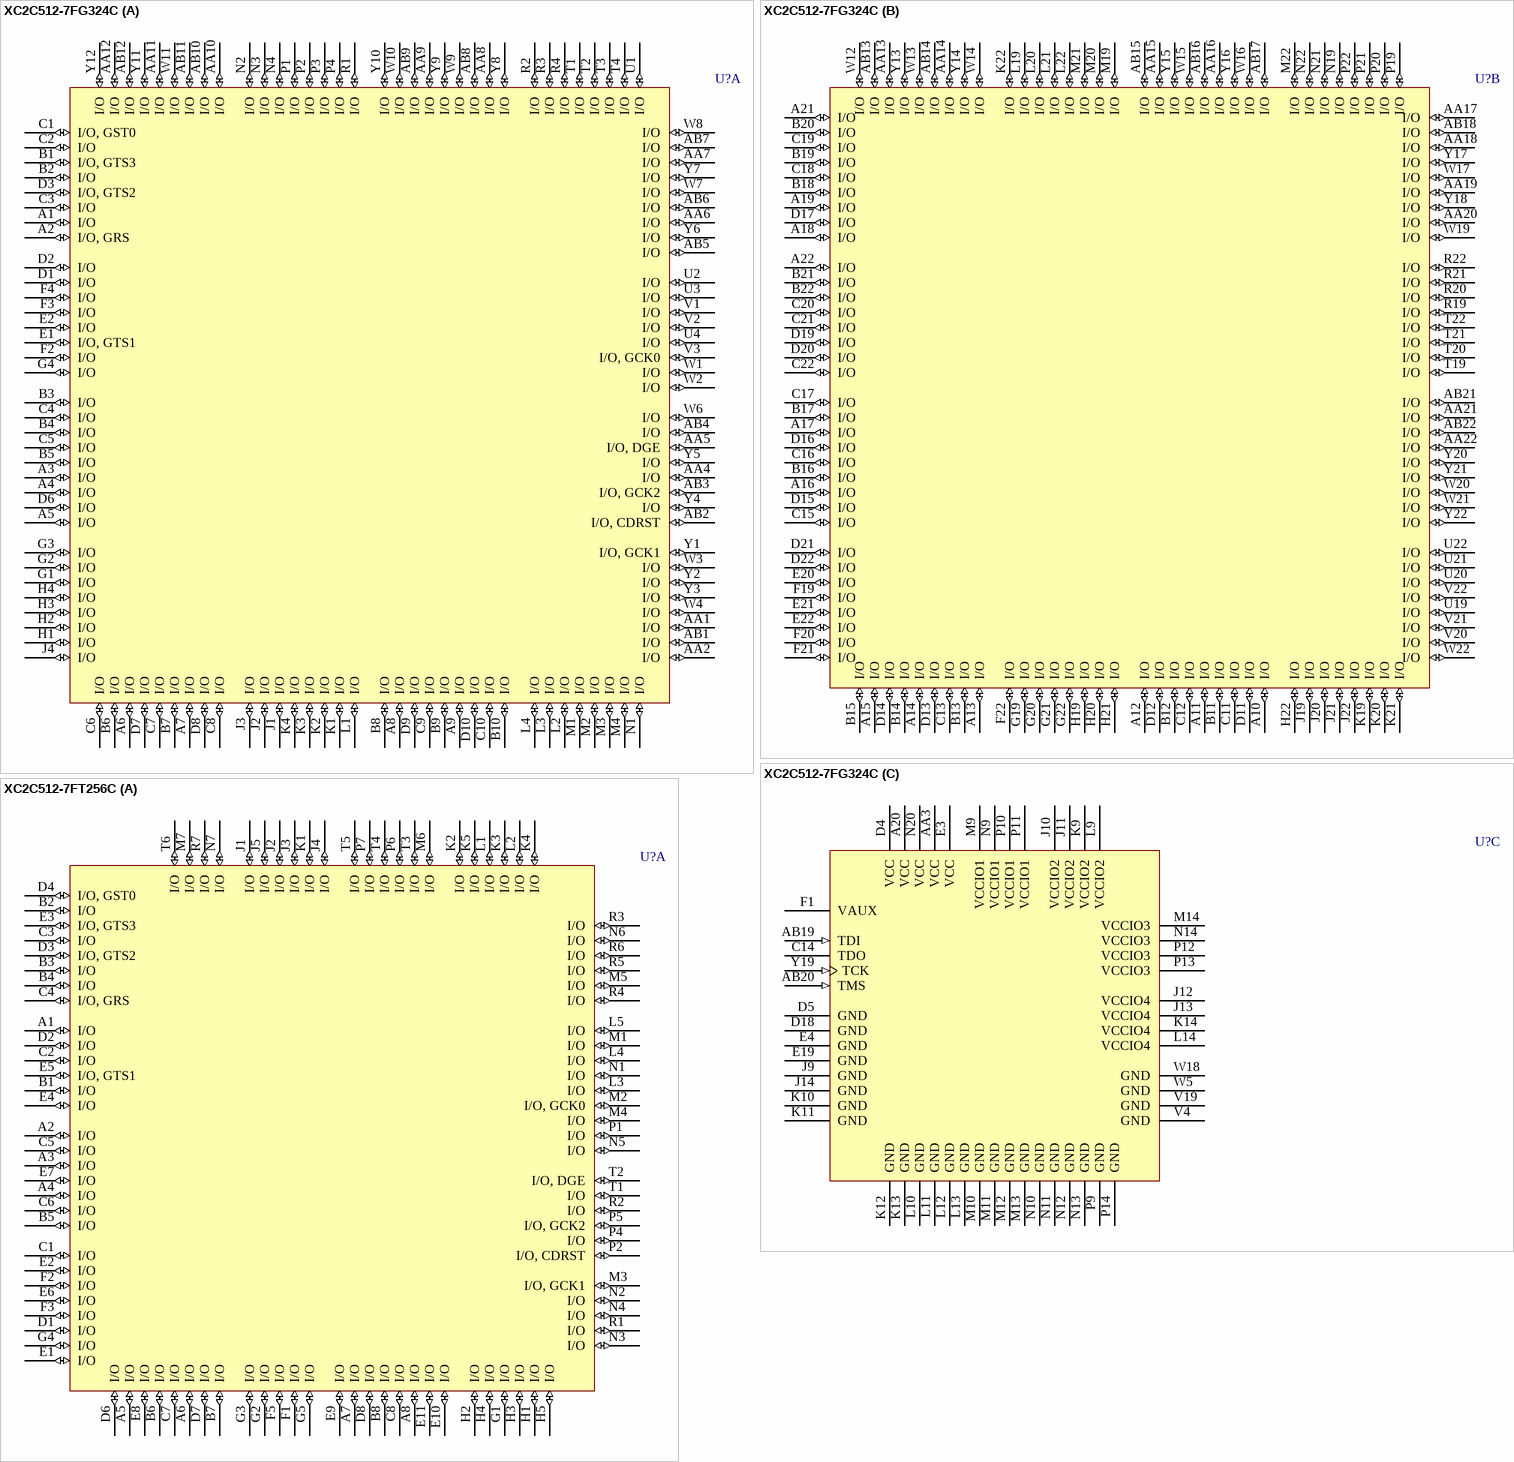
[diagram p34: symbols XC2C512-7FG324C to XC2C512-7FT256C]